# Altium schematic symbol library CompleteLibrary.SchLib: 558 symbols (part 4 of 4)
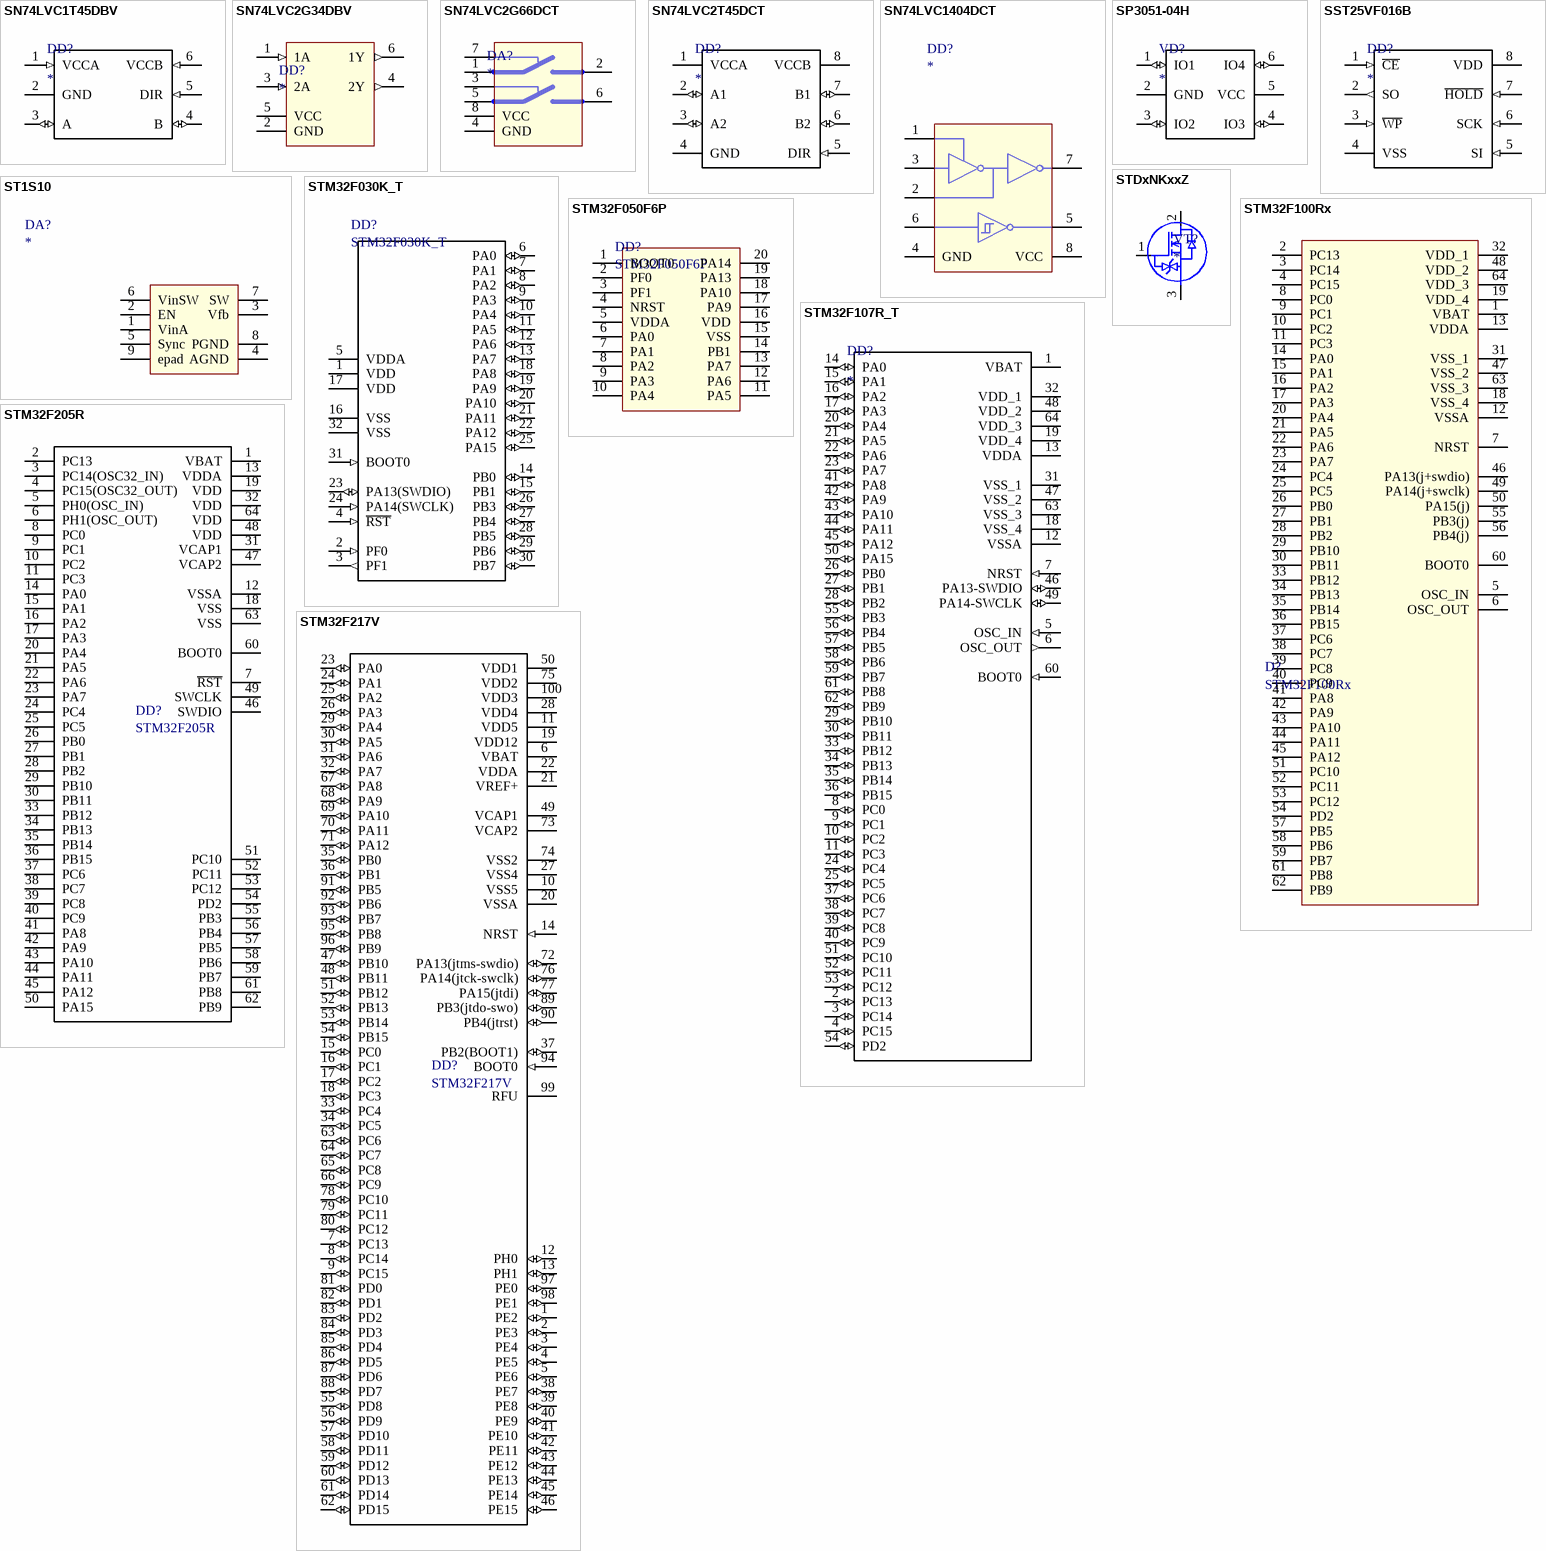
[diagram p28: symbols SN74LVC1T45DBV to STM32F217V]

## STM32F100Rx
designator D?
IC UC/UP; Описание: ???; NumberSolderPointsSMD: 0; Аналог: нет; NumberSolderPointsTHT: 0
footprint LQFP64_FT2232HL
pins: 1 VBAT, 2 PC13, 3 PC14, 4 PC15, 5 OSC_IN, 6 OSC_OUT, 7 NRST, 8 PC0, 9 PC1, 10 PC2, 11 PC3, 12 VSSA, 13 VDDA, 14 PA0, 15 PA1, 16 PA2, 17 PA3, 18 VSS_4, 19 VDD_4, 20 PA4, 21 PA5, 22 PA6, 23 PA7, 24 PC4, 25 PC5, 26 PB0, 27 PB1, 28 PB2, 29 PB10, 30 PB11, 31 VSS_1, 32 VDD_1, 33 PB12, 34 PB13, 35 PB14, 36 PB15, 37 PC6, 38 PC7, 39 PC8, 40 PC9, 41 PA8, 42 PA9, 43 PA10, 44 PA11, 45 PA12, 46 PA13(j+swdio), 47 VSS_2, 48 VDD_2, 49 PA14(j+swclk), 50 PA15(j), 51 PC10, 52 PC11, 53 PC12, 54 PD2, 55 PB3(j), 56 PB4(j), 57 PB5, 58 PB6, 59 PB7, 60 BOOT0, 61 PB8, 62 PB9, 63 VSS_3, 64 VDD_3

## STM32F107R_T
designator DD?
IC uC/uP; Описание: Микросхема LQFP64; x: STM32F107RCT6 (256kByte flash)
footprint LQFP64_STM32
pins: 1 VBAT (power), 2 PC13 (io), 3 PC14 (io), 4 PC15 (io), 5 OSC_IN (in), 6 OSC_OUT (out), 7 NRST (in), 8 PC0 (io), 9 PC1 (io), 10 PC2 (io), 11 PC3 (io), 12 VSSA (power), 13 VDDA (power), 14 PA0 (io), 15 PA1 (io), 16 PA2 (io), 17 PA3 (io), 18 VSS_4 (power), 19 VDD_4 (power), 20 PA4 (io), 21 PA5 (io), 22 PA6 (io), 23 PA7 (io), 24 PC4 (io), 25 PC5 (io), 26 PB0 (io), 27 PB1 (io), 28 PB2 (io), 29 PB10 (io), 30 PB11 (io), 31 VSS_1 (power), 32 VDD_1 (power), 33 PB12 (io), 34 PB13 (io), 35 PB14 (io), 36 PB15 (io), 37 PC6 (io), 38 PC7 (io), 39 PC8 (io), 40 PC9 (io), 41 PA8 (io), 42 PA9 (io), 43 PA10 (io), 44 PA11 (io), 45 PA12 (io), 46 PA13-SWDIO (io), 47 VSS_2 (power), 48 VDD_2 (power), 49 PA14-SWCLK (io), 50 PA15 (io), 51 PC10 (io), 52 PC11 (io), 53 PC12 (io), 54 PD2 (io), 55 PB3 (io), 56 PB4 (io), 57 PB5 (io), 58 PB6 (io), 59 PB7 (io), 60 BOOT0 (in), 61 PB8 (io), 62 PB9 (io), 63 VSS_3 (power), 64 VDD_3 (power)

## STM32F205R
designator DD?
IC UC/UP; Описание: Микросхема LQFP64; NumberSolderPointsSMD: 0; Аналог: нет; NumberSolderPointsTHT: 0
footprint LQFP64_STM32
pins: 1 VBAT, 2 PC13, 3 PC14(OSC32_IN), 4 PC15(OSC32_OUT), 5 PH0(OSC_IN), 6 PH1(OSC_OUT), 7 ~{RST}, 8 PC0, 9 PC1, 10 PC2, 11 PC3, 12 VSSA, 13 VDDA, 14 PA0, 15 PA1, 16 PA2, 17 PA3, 18 VSS, 19 VDD, 20 PA4, 21 PA5, 22 PA6, 23 PA7, 24 PC4, 25 PC5, 26 PB0, 27 PB1, 28 PB2, 29 PB10, 30 PB11, 31 VCAP1, 32 VDD, 33 PB12, 34 PB13, 35 PB14, 36 PB15, 37 PC6, 38 PC7, 39 PC8, 40 PC9, 41 PA8, 42 PA9, 43 PA10, 44 PA11, 45 PA12, 46 SWDIO, 47 VCAP2, 48 VDD, 49 SWCLK, 50 PA15, 51 PC10, 52 PC11, 53 PC12, 54 PD2, 55 PB3, 56 PB4, 57 PB5, 58 PB6, 59 PB7, 60 BOOT0, 61 PB8, 62 PB9, 63 VSS, 64 VDD

## STM32F217V
designator DD?
IC UC/UP; Описание: Микросхема LQFP100; NumberSolderPointsSMD: 0; Аналог: нет; NumberSolderPointsTHT: 0
footprint LQFP100_STM32F217V
pins: 1 PE2 (io), 2 PE3 (io), 3 PE4 (io), 4 PE5 (io), 5 PE6 (io), 6 VBAT (power), 7 PC13 (io), 8 PC14 (io), 9 PC15 (io), 10 VSS5 (power), 11 VDD5 (power), 12 PH0 (io), 13 PH1 (io), 14 NRST (in), 15 PC0 (io), 16 PC1 (io), 17 PC2 (io), 18 PC3 (io), 19 VDD12 (power), 20 VSSA (power), 21 VREF+ (power), 22 VDDA (power), 23 PA0 (io), 24 PA1 (io), 25 PA2 (io), 26 PA3 (io), 27 VSS4 (power), 28 VDD4 (power), 29 PA4 (io), 30 PA5 (io), 31 PA6 (io), 32 PA7 (io), 33 PC4 (io), 34 PC5 (io), 35 PB0 (io), 36 PB1 (io), 37 PB2(BOOT1) (io), 38 PE7 (io), 39 PE8 (io), 40 PE9 (io), 41 PE10 (io), 42 PE11 (io), 43 PE12 (io), 44 PE13 (io), 45 PE14 (io), 46 PE15 (io), 47 PB10 (io), 48 PB11 (io), 49 VCAP1 (power), 50 VDD1 (power), 51 PB12 (io), 52 PB13 (io), 53 PB14 (io), 54 PB15 (io), 55 PD8 (io), 56 PD9 (io), 57 PD10 (io), 58 PD11 (io), 59 PD12 (io), 60 PD13 (io), 61 PD14 (io), 62 PD15 (io), 63 PC6 (io), 64 PC7 (io), 65 PC8 (io), 66 PC9 (io), 67 PA8 (io), 68 PA9 (io), 69 PA10 (io), 70 PA11 (io), 71 PA12 (io), 72 PA13(jtms-swdio) (io), 73 VCAP2 (power), 74 VSS2 (power), 75 VDD2 (power), 76 PA14(jtck-swclk) (io), 77 PA15(jtdi) (io), 78 PC10 (io), 79 PC11 (io), 80 PC12 (io), 81 PD0 (io), 82 PD1 (io), 83 PD2 (io), 84 PD3 (io), 85 PD4 (io), 86 PD5 (io), 87 PD6 (io), 88 PD7 (io), 89 PB3(jtdo-swo) (io), 90 PB4(jtrst) (io), 91 PB5 (io), 92 PB6 (io), 93 PB7 (io), 94 BOOT0 (in), 95 PB8 (io), 96 PB9 (io), 97 PE0 (io), 98 PE1 (io), 99 RFU, 100 VDD3 (power)

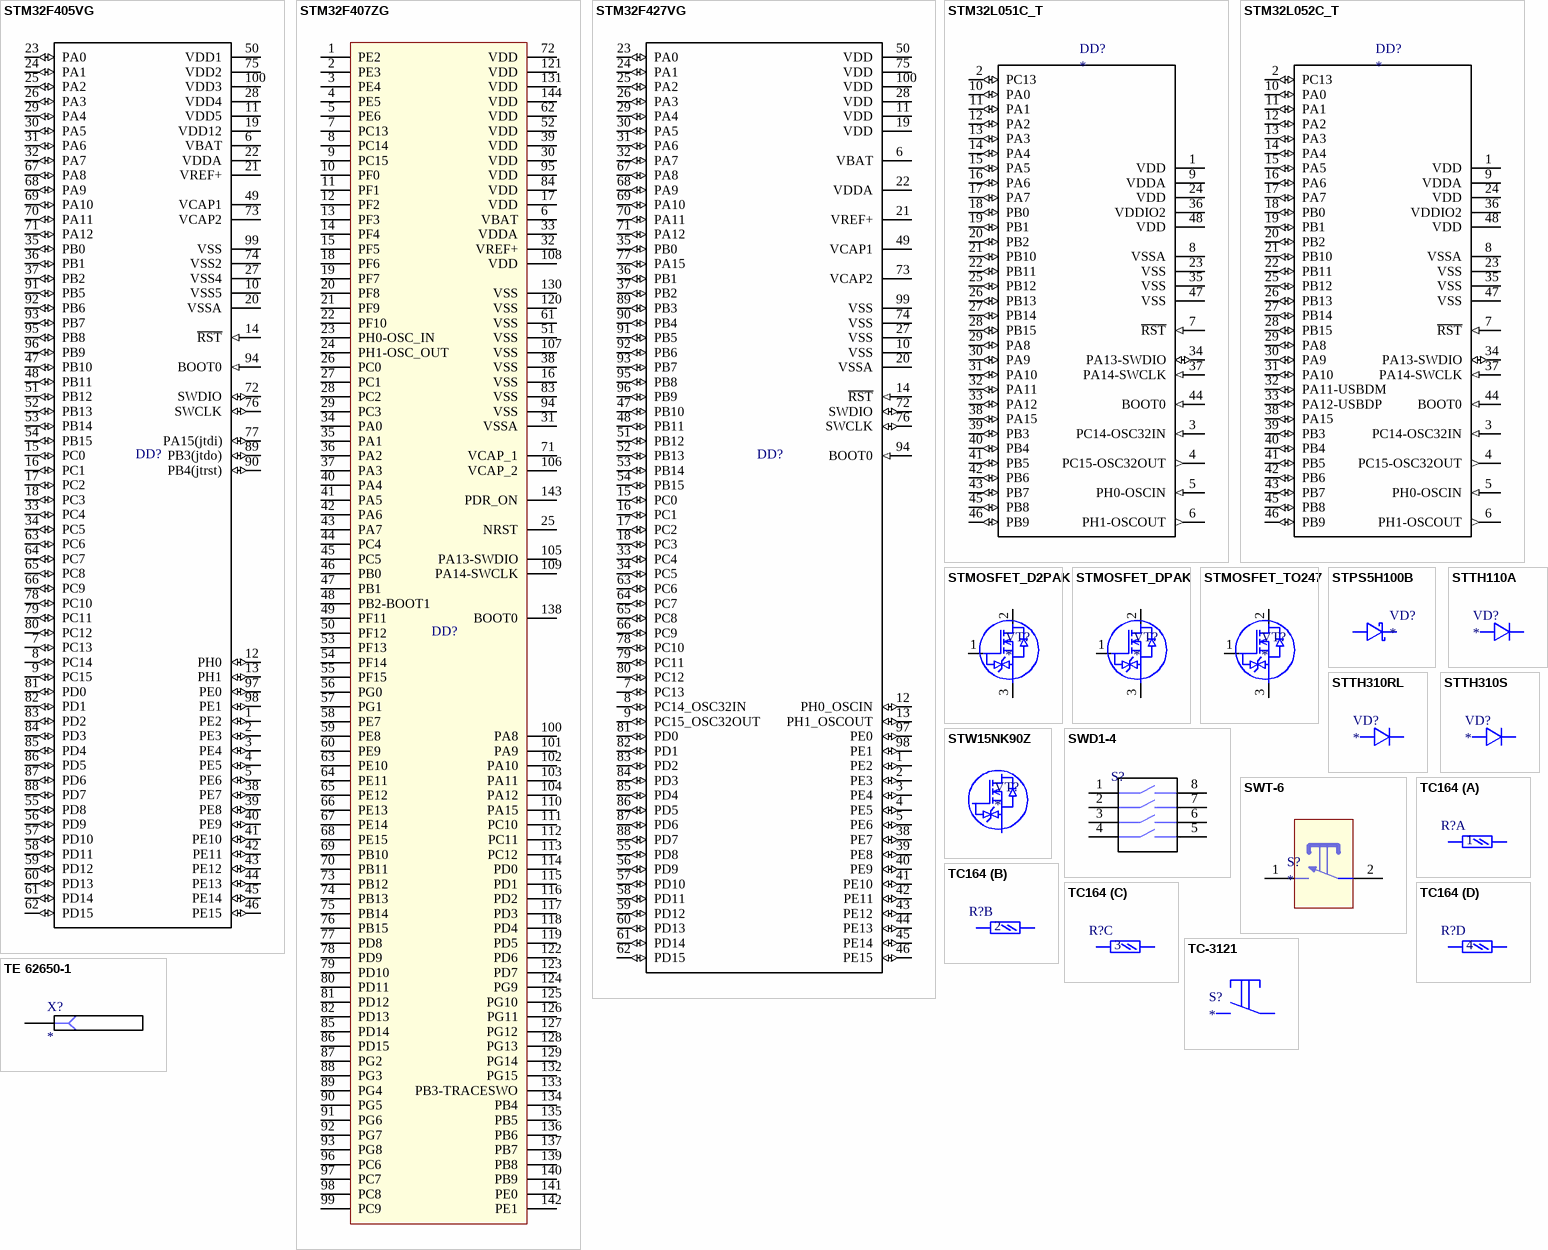
[diagram p21: symbols STM32F405VG to TE 62650-1]

## STM32F405VG
designator DD?  (value not drawn)
IC UC/UP; Описание: Микросхема LQFP100; NumberSolderPointsSMD: 0; Аналог: нет; NumberSolderPointsTHT: 0
footprint LQFP100_STM32F217V
pins: 1 PE2 (io), 2 PE3 (io), 3 PE4 (io), 4 PE5 (io), 5 PE6 (io), 6 VBAT (power), 7 PC13 (io), 8 PC14 (io), 9 PC15 (io), 10 VSS5 (power), 11 VDD5 (power), 12 PH0 (io), 13 PH1 (io), 14 ~{RST} (in), 15 PC0 (io), 16 PC1 (io), 17 PC2 (io), 18 PC3 (io), 19 VDD12 (power), 20 VSSA (power), 21 VREF+ (power), 22 VDDA (power), 23 PA0 (io), 24 PA1 (io), 25 PA2 (io), 26 PA3 (io), 27 VSS4 (power), 28 VDD4 (power), 29 PA4 (io), 30 PA5 (io), 31 PA6 (io), 32 PA7 (io), 33 PC4 (io), 34 PC5 (io), 35 PB0 (io), 36 PB1 (io), 37 PB2 (io), 38 PE7 (io), 39 PE8 (io), 40 PE9 (io), 41 PE10 (io), 42 PE11 (io), 43 PE12 (io), 44 PE13 (io), 45 PE14 (io), 46 PE15 (io), 47 PB10 (io), 48 PB11 (io), 49 VCAP1 (power), 50 VDD1 (power), 51 PB12 (io), 52 PB13 (io), 53 PB14 (io), 54 PB15 (io), 55 PD8 (io), 56 PD9 (io), 57 PD10 (io), 58 PD11 (io), 59 PD12 (io), 60 PD13 (io), 61 PD14 (io), 62 PD15 (io), 63 PC6 (io), 64 PC7 (io), 65 PC8 (io), 66 PC9 (io), 67 PA8 (io), 68 PA9 (io), 69 PA10 (io), 70 PA11 (io), 71 PA12 (io), 72 SWDIO (io), 73 VCAP2 (power), 74 VSS2 (power), 75 VDD2 (power), 76 SWCLK (io), 77 PA15(jtdi) (io), 78 PC10 (io), 79 PC11 (io), 80 PC12 (io), 81 PD0 (io), 82 PD1 (io), 83 PD2 (io), 84 PD3 (io), 85 PD4 (io), 86 PD5 (io), 87 PD6 (io), 88 PD7 (io), 89 PB3(jtdo) (io), 90 PB4(jtrst) (io), 91 PB5 (io), 92 PB6 (io), 93 PB7 (io), 94 BOOT0 (in), 95 PB8 (io), 96 PB9 (io), 97 PE0 (io), 98 PE1 (io), 99 VSS, 100 VDD3 (power)

## STM32F407ZG
designator DD?  (value not drawn)
IC UC/UP; Описание: Микросхема LQFP144; NumberSolderPointsSMD: 0; Аналог: нет; NumberSolderPointsTHT: 0
footprint LQFP144_STM32
pins: 1 PE2, 2 PE3, 3 PE4, 4 PE5, 5 PE6, 6 VBAT, 7 PC13, 8 PC14, 9 PC15, 10 PF0, 11 PF1, 12 PF2, 13 PF3, 14 PF4, 15 PF5, 16 VSS, 17 VDD, 18 PF6, 19 PF7, 20 PF8, 21 PF9, 22 PF10, 23 PH0-OSC_IN, 24 PH1-OSC_OUT, 25 NRST, 26 PC0, 27 PC1, 28 PC2, 29 PC3, 30 VDD, 31 VSSA, 32 VREF+, 33 VDDA, 34 PA0, 35 PA1, 36 PA2, 37 PA3, 38 VSS, 39 VDD, 40 PA4, 41 PA5, 42 PA6, 43 PA7, 44 PC4, 45 PC5, 46 PB0, 47 PB1, 48 PB2-BOOT1, 49 PF11, 50 PF12, 51 VSS, 52 VDD, 53 PF13, 54 PF14, 55 PF15, 56 PG0, 57 PG1, 58 PE7, 59 PE8, 60 PE9, 61 VSS, 62 VDD, 63 PE10, 64 PE11, 65 PE12, 66 PE13, 67 PE14, 68 PE15, 69 PB10, 70 PB11, 71 VCAP_1, 72 VDD, 73 PB12, 74 PB13, 75 PB14, 76 PB15, 77 PD8, 78 PD9, 79 PD10, 80 PD11, 81 PD12, 82 PD13, 83 VSS, 84 VDD, 85 PD14, 86 PD15, 87 PG2, 88 PG3, 89 PG4, 90 PG5, 91 PG6, 92 PG7, 93 PG8, 94 VSS, 95 VDD, 96 PC6, 97 PC7, 98 PC8, 99 PC9, 100 PA8, 101 PA9, 102 PA10, 103 PA11, 104 PA12, 105 PA13-SWDIO, 106 VCAP_2, 107 VSS, 108 VDD, 109 PA14-SWCLK, 110 PA15, 111 PC10, 112 PC11, 113 PC12, 114 PD0, 115 PD1, 116 PD2, 117 PD3, 118 PD4, 119 PD5, 120 VSS, 121 VDD, 122 PD6, 123 PD7, 124 PG9, 125 PG10, 126 PG11, 127 PG12, 128 PG13, 129 PG14, 130 VSS, 131 VDD, 132 PG15, 133 PB3-TRACESWO, 134 PB4, 135 PB5, 136 PB6, 137 PB7, 138 BOOT0, 139 PB8, 140 PB9, 141 PE0, 142 PE1, 143 PDR_ON, 144 VDD

## STM32F427VG
designator DD?  (value not drawn)
IC UC/UP; Описание: Микросхема LQFP100; NumberSolderPointsSMD: 0; Аналог: нет; NumberSolderPointsTHT: 0
footprint LQFP100_STM32F217V
pins: 1 PE2 (io), 2 PE3 (io), 3 PE4 (io), 4 PE5 (io), 5 PE6 (io), 6 VBAT (power), 7 PC13 (io), 8 PC14_OSC32IN (io), 9 PC15_OSC32OUT (io), 10 VSS (power), 11 VDD (power), 12 PH0_OSCIN (io), 13 PH1_OSCOUT (io), 14 ~{RST} (in), 15 PC0 (io), 16 PC1 (io), 17 PC2 (io), 18 PC3 (io), 19 VDD (power), 20 VSSA (power), 21 VREF+ (power), 22 VDDA (power), 23 PA0 (io), 24 PA1 (io), 25 PA2 (io), 26 PA3 (io), 27 VSS (power), 28 VDD (power), 29 PA4 (io), 30 PA5 (io), 31 PA6 (io), 32 PA7 (io), 33 PC4 (io), 34 PC5 (io), 35 PB0 (io), 36 PB1 (io), 37 PB2 (io), 38 PE7 (io), 39 PE8 (io), 40 PE9 (io), 41 PE10 (io), 42 PE11 (io), 43 PE12 (io), 44 PE13 (io), 45 PE14 (io), 46 PE15 (io), 47 PB10 (io), 48 PB11 (io), 49 VCAP1 (power), 50 VDD (power), 51 PB12 (io), 52 PB13 (io), 53 PB14 (io), 54 PB15 (io), 55 PD8 (io), 56 PD9 (io), 57 PD10 (io), 58 PD11 (io), 59 PD12 (io), 60 PD13 (io), 61 PD14 (io), 62 PD15 (io), 63 PC6 (io), 64 PC7 (io), 65 PC8 (io), 66 PC9 (io), 67 PA8 (io), 68 PA9 (io), 69 PA10 (io), 70 PA11 (io), 71 PA12 (io), 72 SWDIO (io), 73 VCAP2 (power), 74 VSS (power), 75 VDD (power), 76 SWCLK (io), 77 PA15 (io), 78 PC10 (io), 79 PC11 (io), 80 PC12 (io), 81 PD0 (io), 82 PD1 (io), 83 PD2 (io), 84 PD3 (io), 85 PD4 (io), 86 PD5 (io), 87 PD6 (io), 88 PD7 (io), 89 PB3 (io), 90 PB4 (io), 91 PB5 (io), 92 PB6 (io), 93 PB7 (io), 94 BOOT0 (in), 95 PB8 (io), 96 PB9 (io), 97 PE0 (io), 98 PE1 (io), 99 VSS, 100 VDD (power)

## STM32L051C_T
designator DD?
IC UC/UP; Аналог: нет; Описание: ???
footprint LQFP48_STM32
pins: 1 VDD (power), 2 PC13 (io), 3 PC14-OSC32IN (in), 4 PC15-OSC32OUT (out), 5 PH0-OSCIN (in), 6 PH1-OSCOUT (out), 7 ~{RST} (in), 8 VSSA (power), 9 VDDA (power), 10 PA0 (io), 11 PA1 (io), 12 PA2 (io), 13 PA3 (io), 14 PA4 (io), 15 PA5 (io), 16 PA6 (io), 17 PA7 (io), 18 PB0 (io), 19 PB1 (io), 20 PB2 (io), 21 PB10 (io), 22 PB11 (io), 23 VSS (power), 24 VDD (power), 25 PB12 (io), 26 PB13 (io), 27 PB14 (io), 28 PB15 (io), 29 PA8 (io), 30 PA9 (io), 31 PA10 (io), 32 PA11 (io), 33 PA12 (io), 34 PA13-SWDIO (io), 35 VSS (power), 36 VDDIO2 (power), 37 PA14-SWCLK (in), 38 PA15 (io), 39 PB3 (io), 40 PB4 (io), 41 PB5 (io), 42 PB6 (io), 43 PB7 (io), 44 BOOT0 (in), 45 PB8 (io), 46 PB9 (io), 47 VSS (power), 48 VDD (power)

## STM32L052C_T
designator DD?
IC UC/UP; Аналог: нет; x: STM32L052C6T(32kByte flash),STM32L052C8T(64kByte flash); Описание: Микросхема LQFP48
footprint LQFP48_STM32
pins: 1 VDD (power), 2 PC13 (io), 3 PC14-OSC32IN (in), 4 PC15-OSC32OUT (out), 5 PH0-OSCIN (in), 6 PH1-OSCOUT (out), 7 ~{RST} (in), 8 VSSA (power), 9 VDDA (power), 10 PA0 (io), 11 PA1 (io), 12 PA2 (io), 13 PA3 (io), 14 PA4 (io), 15 PA5 (io), 16 PA6 (io), 17 PA7 (io), 18 PB0 (io), 19 PB1 (io), 20 PB2 (io), 21 PB10 (io), 22 PB11 (io), 23 VSS (power), 24 VDD (power), 25 PB12 (io), 26 PB13 (io), 27 PB14 (io), 28 PB15 (io), 29 PA8 (io), 30 PA9 (io), 31 PA10 (io), 32 PA11-USBDM (io), 33 PA12-USBDP (io), 34 PA13-SWDIO (io), 35 VSS (power), 36 VDDIO2 (power), 37 PA14-SWCLK (in), 38 PA15 (io), 39 PB3 (io), 40 PB4 (io), 41 PB5 (io), 42 PB6 (io), 43 PB7 (io), 44 BOOT0 (in), 45 PB8 (io), 46 PB9 (io), 47 VSS (power), 48 VDD (power)

## STMOSFET_D2PAK
designator VT?
TRANSISTOR N-Channel zener-protected power MOSFET in D2PAK; Описание: ???; NumberSolderPointsSMD: 0; Аналог: нет; NumberSolderPointsTHT: 0
footprint STMOSFET_D2PAK
pins: 1 G, 2 D, 3 S

## STMOSFET_DPAK
designator VT?
TRANSISTOR N-Channel zener-protected power MOSFET in DPAK; Описание: Транзистор DPAK; NumberSolderPointsSMD: 0; Аналог: нет; NumberSolderPointsTHT: 0
footprint STMOSFET_DPAK
pins: 1 G, 2 D, 3 S

## STMOSFET_TO247
designator VT?
TRANSISTOR N-Channel zener-protected power MOSFET in DPAK; Описание: ???; NumberSolderPointsSMD: 0; Аналог: нет; NumberSolderPointsTHT: 0
footprint STMOSFET_TO247
pins: 1 G, 2 D, 3 S

## STPS5H100B
designator VD?
DIODE Schottky 100V 5A; Описание: ???; NumberSolderPointsSMD: 0; Аналог: нет; NumberSolderPointsTHT: 0
footprint DPAK
pins: 2, 3

## STTH110A
designator VD?
DIODE High voltage ultrafast rectifier; Описание: Диод SMA; NumberSolderPointsSMD: 0; Аналог: нет; NumberSolderPointsTHT: 0
footprint SMA_DIODE
pins: 1, 2

## STTH310RL
designator VD?
DIODE High voltage ultrafast rectifier; Описание: ???; NumberSolderPointsSMD: 0; Аналог: нет; NumberSolderPointsTHT: 0
footprint DO201_STTH310RL
pins: 1, 2

## STTH310S
designator VD?
DIODE High voltage ultrafast rectifier; Описание: Диод SMC; NumberSolderPointsSMD: 0; Аналог: нет; NumberSolderPointsTHT: 0
footprint SMC
pins: 1, 2

## STW15NK90Z
designator VT?
TRANSISTOR MOSFET; Описание: Транзистор TO247; NumberSolderPointsSMD: 0; Аналог: нет; NumberSolderPointsTHT: 0
footprint TO247_MOSFETST
footprint TO247_MOSFETST_LOW1
pins: 1 G, 2 D, 3 S

## SWD1-4
designator S?  (value not drawn)
SWITCH DIP-switch; Описание: Переключатель DIP8; NumberSolderPointsSMD: 0; Аналог: нет; NumberSolderPointsTHT: 0
footprint SWD1-4
pins: 1, 2, 3, 4, 5, 6, 7, 8

## SWT-6
designator S?
SWITCH Button; Описание: ???; NumberSolderPointsSMD: 0; Аналог: нет; NumberSolderPointsTHT: 0
footprint SWT-6
pins: 1, 2

## TC164
designator R?
RESISTOR Array , 0.8mm pitch; Описание: Резист.сборка x4 SMD1206; NumberSolderPointsSMD: 0; Аналог: CAT16(YC164/CAY16); NumberSolderPointsTHT: 0
footprint TC164
part A pins: 1, 8
part B pins: 2, 7
part C pins: 3, 6
part D pins: 4, 5

## TC-3121
designator S?
SWITCH Button; Описание: Кнопка; NumberSolderPointsSMD: 0; Аналог: нет; NumberSolderPointsTHT: 0
footprint TC-3121(right-angle var1)
pins: 1, 2

## TE 62650-1
designator X?
CONNECTOR 6.3mm tab; Аналог: нет; Описание: ???
footprint 62650-1
pins: 1

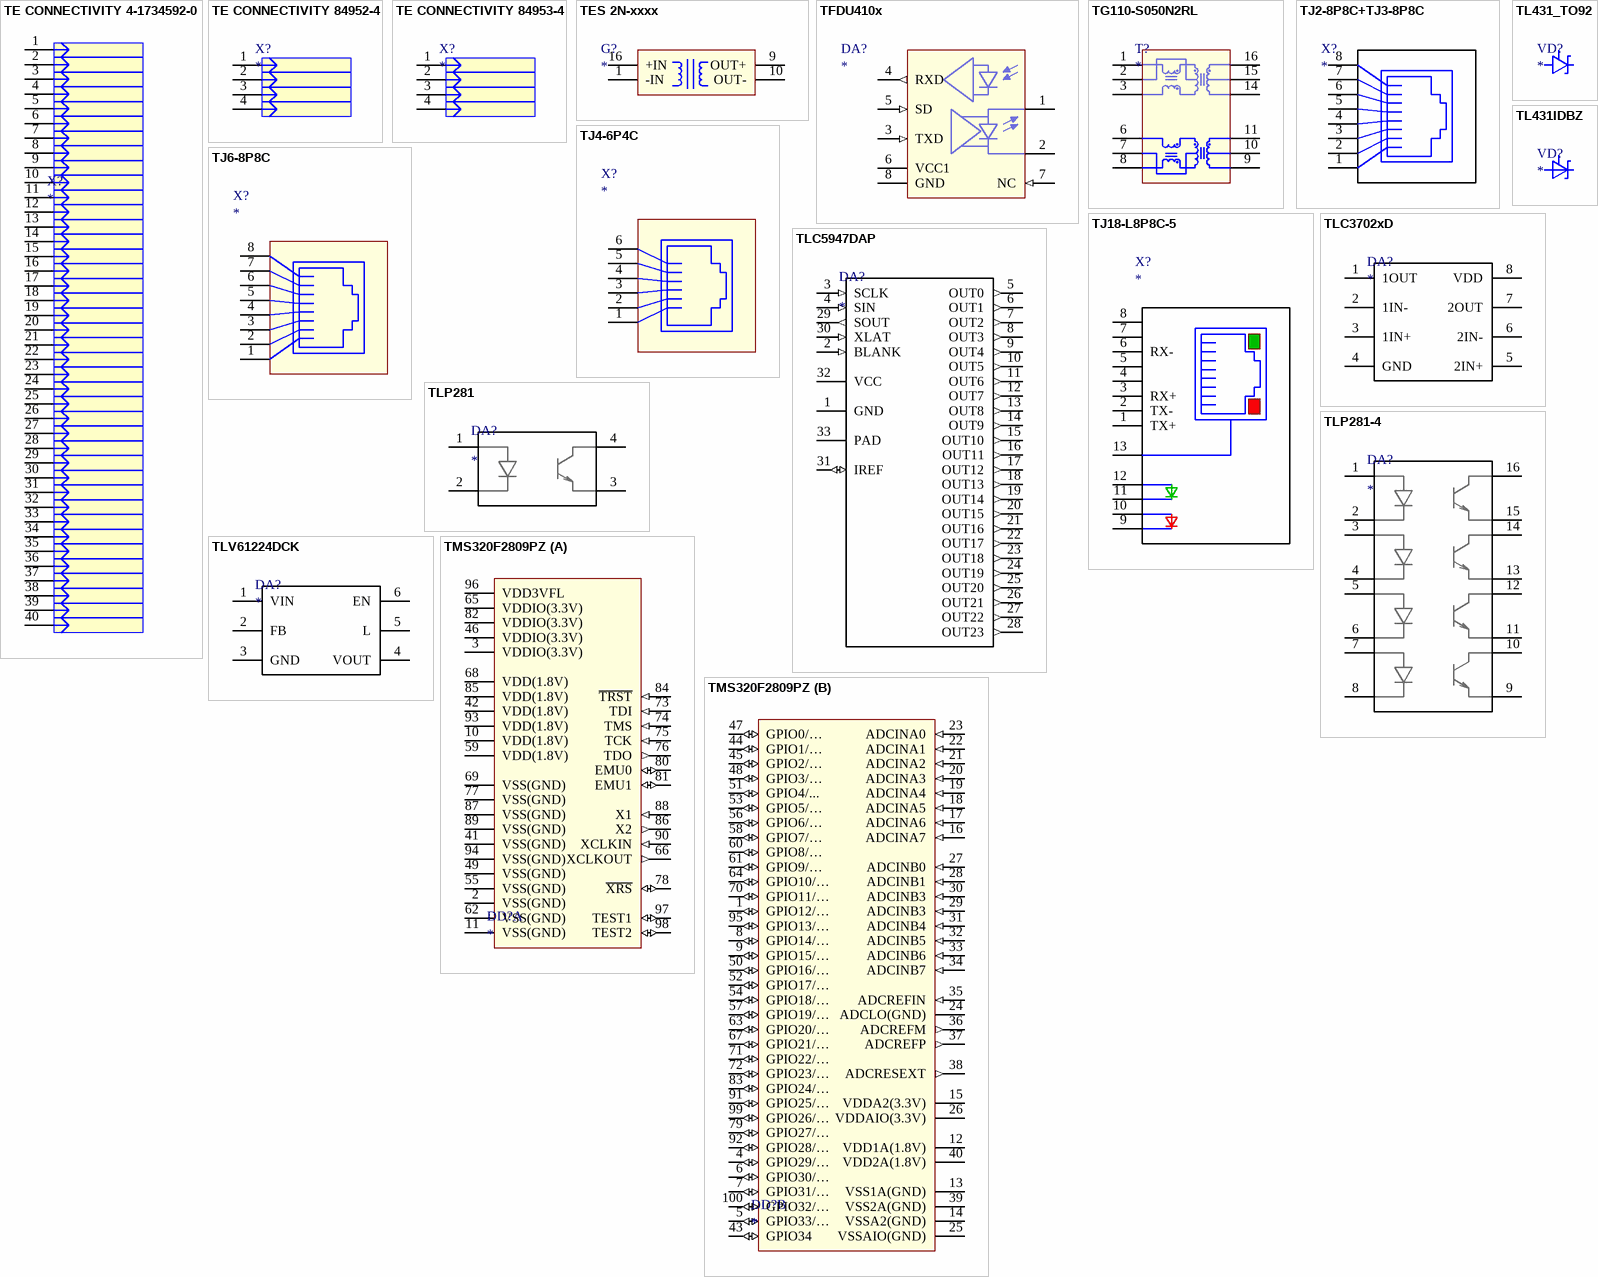
[diagram p22: symbols TE CONNECTIVITY 4-1734592-0 to TMS320F2809PZ]

## TE CONNECTIVITY 4-1734592-0
designator X?
CONNECTOR FPC pitch=0.5mm p=40 right-angle bottom-contact; Описание: Разъем; NumberSolderPointsSMD: 0; Аналог: нет; NumberSolderPointsTHT: 0
footprint 4-1734592-0
pins: 1, 2, 3, 4, 5, 6, 7, 8, 9, 10, 11, 12, 13, 14, 15, 16, 17, 18, 19, 20, 21, 22, 23, 24, 25, 26, 27, 28, 29, 30, 31, 32, 33, 34, 35, 36, 37, 38, 39, 40

## TE CONNECTIVITY 84952-4
designator X?
CONNECTOR FPC pitch=1mm p=4 right-angle bottom-contact; Описание: Разъем; NumberSolderPointsSMD: 0; Аналог: нет; NumberSolderPointsTHT: 0
footprint 84952-4
pins: 1, 2, 3, 4

## TE CONNECTIVITY 84953-4
designator X?
CONNECTOR FPC pitch=1mm p=4 right-angle top-contact; Описание: Разъем; NumberSolderPointsSMD: 0; Аналог: нет; NumberSolderPointsTHT: 0
footprint 84952-4
pins: 1, 2, 3, 4

## TES 2N-xxxx
designator G?
MODULE POWER 2W regulated DC/DC converter , 1.5KV isolation; Описание: ???; NumberSolderPointsSMD: 0; Аналог: нет; NumberSolderPointsTHT: 0
footprint TES 2N-xxxx
pins: 1 -IN (power), 9 OUT+ (power), 10 OUT- (power), 16 +IN (power)

## TFDU410x
designator DA?
MODULE INFRARED Transceiver Module (SIR, 115.2 kbit/s); Описание: ???; NumberSolderPointsSMD: 0; Аналог: нет; NumberSolderPointsTHT: 0
footprint TFDU410x
pins: 1, 2, 3 TXD (in), 4 RXD (out), 5 SD (in), 6 VCC1, 7 NC (in), 8 GND

## TG110-S050N2RL
designator T?
MAGNETIC 10/100BASE-TX Magnetic Module; Описание: ???; NumberSolderPointsSMD: 0; Аналог: нет; NumberSolderPointsTHT: 0
footprint SO16W_TG110
pins: 1  , 2  , 3  , 4 NC hidden, 5 NC hidden, 6  , 7  , 8  , 9, 10  , 11  , 12 NC hidden, 13 NC hidden, 14  , 15  , 16  

## TJ2-8P8C+TJ3-8P8C
designator X?
CONNECTOR RJ45; Описание: Разъем RJ45; NumberSolderPointsSMD: 0; Аналог: нет; NumberSolderPointsTHT: 0
footprint TJ2-8P8C+TJ3-8P8C
pins: 1  , 2  , 3  , 4  , 5  , 6  , 7  , 8  

## TJ4-6P4C
designator X?
CONNECTOR RJ1...; Описание: ???; NumberSolderPointsSMD: 0; Аналог: нет; NumberSolderPointsTHT: 0
footprint TJ4-6P4C
pins: 1  , 2  , 3  , 4  , 5  , 6  

## TJ6-8P8C
designator X?
CONNECTOR RJ45; Описание: ???; NumberSolderPointsSMD: 0; Аналог: нет; NumberSolderPointsTHT: 0
footprint TJ6-8P8C
pins: 1  , 2  , 3  , 4  , 5  , 6  , 7  , 8  

## TJ18-L8P8C-5
designator X?
CONNECTOR RJ45; Описание: Разъем RJ45; NumberSolderPointsSMD: 0; Аналог: нет; NumberSolderPointsTHT: 0
footprint TJ18-L8P8C-5
pins: 1 TX+, 2 TX-, 3 RX+, 4, 5, 6 RX-, 7, 8, 9 RedLED+, 10 RedLED-, 11 GreenLED+, 12 GreenLED-, 13 Case1

## TL431_TO92
designator VD?
DIODE ZENER Adjustable shunt regulator; Описание: ???; NumberSolderPointsSMD: 0; Аналог: нет; NumberSolderPointsTHT: 0
footprint TO92_TL431
pins: 1 REF, 2 ANODE, 3 CATHODE

## TL431IDBZ
designator VD?
DIODE ZENER Adjustable shunt regulator (sot23-3); Описание: Стабилитрон SOT23; NumberSolderPointsSMD: 0; Аналог: нет; NumberSolderPointsTHT: 0
footprint SOT23
pins: 1 CATHODE, 2 REF, 3 ANODE

## TLC3702xD
designator DA?
IC dual comparators; Описание: Микросхема SO8; NumberSolderPointsSMD: 0; Аналог: нет; NumberSolderPointsTHT: 0
footprint SO8
pins: 1 1OUT, 2 1IN-, 3 1IN+, 4 GND, 5 2IN+, 6 2IN-, 7 2OUT, 8 VDD

## TLC5947DAP
designator DA?
IC LED driver 24-channel; Описание: Микросхема HTSSOP32; x: *
footprint HTSSOP32_TI
pins: 1 GND (power), 2 BLANK (in), 3 SCLK (in), 4 SIN (in), 5 OUT0 (out), 6 OUT1 (out), 7 OUT2 (out), 8 OUT3 (out), 9 OUT4 (out), 10 OUT5 (out), 11 OUT6 (out), 12 OUT7 (out), 13 OUT8 (out), 14 OUT9 (out), 15 OUT10 (out), 16 OUT11 (out), 17 OUT12 (out), 18 OUT13 (out), 19 OUT14 (out), 20 OUT15 (out), 21 OUT16 (out), 22 OUT17 (out), 23 OUT18 (out), 24 OUT19 (out), 25 OUT20 (out), 26 OUT21 (out), 27 OUT22 (out), 28 OUT23 (out), 29 SOUT (out), 30 XLAT (in), 31 IREF (io), 32 VCC (power), 33 PAD (power)

## TLP281
designator DA?
IC Photocoupler; Описание: Оптрон; Аналог: TLP291
footprint SO4_TLP281
pins: 1, 2, 3, 4

## TLP281-4
designator DA?
IC Photocoupler; Описание: Оптрон; Аналог: TLP291-4
footprint SO16
pins: 1, 2, 3, 4, 5, 6, 7, 8, 9, 10, 11, 12, 13, 14, 15, 16

## TLV61224DCK
designator DA?
IC 1or2-cell boost; Аналог: нет; Описание: Микросхема SC70-6
footprint SC70-6
pins: 1 VIN, 2 FB, 3 GND, 4 VOUT, 5 L, 6 EN

## TMS320F2809PZ
designator DD?
IC UC/UP Digital Signal Controller; Описание: ???; NumberSolderPointsSMD: 0; Аналог: нет; NumberSolderPointsTHT: 0
footprint PQFP100_TMS320F2809
part A pins: 2 VSS(GND) (power), 3 VDDIO(3.3V) (power), 10 VDD(1.8V) (power), 11 VSS(GND) (power), 41 VSS(GND) (power), 42 VDD(1.8V) (power), 46 VDDIO(3.3V) (power), 49 VSS(GND) (power), 55 VSS(GND) (power), 59 VDD(1.8V) (power), 62 VSS(GND) (power), 65 VDDIO(3.3V) (power), 66 XCLKOUT (out), 68 VDD(1.8V) (power), 69 VSS(GND) (power), 73 TDI (in), 74 TMS (in), 75 TCK (in), 76 TDO (out), 77 VSS(GND) (power), 78 ~{XRS} (io), 80 EMU0 (io), 81 EMU1 (io), 82 VDDIO(3.3V) (power), 84 ~{TRST} (in), 85 VDD(1.8V) (power), 86 X2 (out), 87 VSS(GND) (power), 88 X1 (in), 89 VSS(GND) (power), 90 XCLKIN (in), 93 VDD(1.8V) (power), 94 VSS(GND) (power), 96 VDD3VFL (power), 97 TEST1 (io), 98 TEST2 (io)
part B pins: 1 GPIO12/… (io) "GPIO12/TZ1/CANTXB/SPISIMOB", 4 GPIO29/… (io) "GPIO29/SCITXDA/TZ6", 5 GPIO33/… (io) "GPIO33/SCL/EPWMSYNCO/ADCSOCBO", 6 GPIO30/… (io) "GPIO30/CANRXA", 7 GPIO31/… (io) "GPIO31/CANTXA", 8 GPIO14/… (io) "GPIO14/TZ3/SCITXDB/SPICLKB", 9 GPIO15/… (io) "GPIO15/TZ4/SCIRXDB/SPISTEB", 12 VDD1A(1.8V) (power), 13 VSS1A(GND) (power), 14 VSSA2(GND) (power), 15 VDDA2(3.3V) (power), 16 ADCINA7 (in), 17 ADCINA6 (in), 18 ADCINA5 (in), 19 ADCINA4 (in), 20 ADCINA3 (in), 21 ADCINA2 (in), 22 ADCINA1 (in), 23 ADCINA0 (in), 24 ADCLO(GND) (power), 25 VSSAIO(GND) (power), 26 VDDAIO(3.3V) (power), 27 ADCINB0 (in), 28 ADCINB1 (in), 29 ADCINB3 (in), 30 ADCINB3 (in), 31 ADCINB4 (in), 32 ADCINB5 (in), 33 ADCINB6 (in), 34 ADCINB7 (in), 35 ADCREFIN (in), 36 ADCREFM (out), 37 ADCREFP (out), 38 ADCRESEXT (out), 39 VSS2A(GND) (power), 40 VDD2A(1.8V) (power), 43 GPIO34 (io), 44 GPIO1/… (io) "GPIO1/EPWM1B/SPISIMOD", 45 GPIO2/… (io) "GPIO2/EPWM2A", 47 GPIO0/… (io) "GPIO0/EPWM1A", 48 GPIO3/… (io) "GPIO3/EPWM2B/SPISOMID", 50 GPIO16/… (io) "GPIO16/SPISIMOA/CANTXB/TZ5", 51 GPIO4/... (io) "GPIO4/EPWM3A", 52 GPIO17/… (io) "GPIO17/SPISOMIA/CANRXB/TZ6", 53 GPIO5/… (io) "GPIO5/EPWM3B/SPICLKD/ECAP1", 54 GPIO18/… (io) "GPIO18/SPICLKA/SCITXDB", 56 GPIO6/… (io) "GPIO6/EPWM4A/EPWMSYNCI/EPWMSYNCO", 57 GPIO19/… (io) "GPIO19/SPISTEA/SCIRXDB", 58 GPIO7/… (io) "GPIO7/EPWM4B/SPISTED/ECAP2", 60 GPIO8/… (io) "GPIO8/EPWM5A/CANTXB/ADCSOCAO", 61 GPIO9/… (io) "GPIO9/EPWM5B/SCITXDB/ECAP3", 63 GPIO20/… (io) "GPIO20/EQEP1A/SPISIMOC/CANTXB", 64 GPIO10/… (io) "GPIO10/EPWM6A/CANRXB/ADCSOCBO", 67 GPIO21/… (io) "GPIO21/EQEP1B/SPISOMIC/CANRXB", 70 GPIO11/… (io) "GPIO11/EPWM6B/SCIRXDB/ECAP4", 71 GPIO22/… (io) "GPIO22/EQEP1S/SPICLKC/SCITXDB", 72 GPIO23/… (io) "GPIO23/EQEP1I/SPISTEC/SCIRXDB", 79 GPIO27/… (io) "GPIO27/ECAP4/EQEP2S/SPISTEB", 83 GPIO24/… (io) "GPIO24/ECAP1/EQEP2A/SPISIMOB", 91 GPIO25/… (io) "GPIO25/ECAP2/EQEP2B/SPISOMIB", 92 GPIO28/… (io) "GPIO28/SCIRXDA/TZ5", 95 GPIO13/… (io) "GPIO13/TZ2/CANRXB/SPISOMIB", 99 GPIO26/… (io) "GPIO26/ECAP3/EQEP2I/SPICLKB", 100 GPIO32/… (io) "GPIO32/SDAA/EPWMSYNCI/ADCSOCAO"

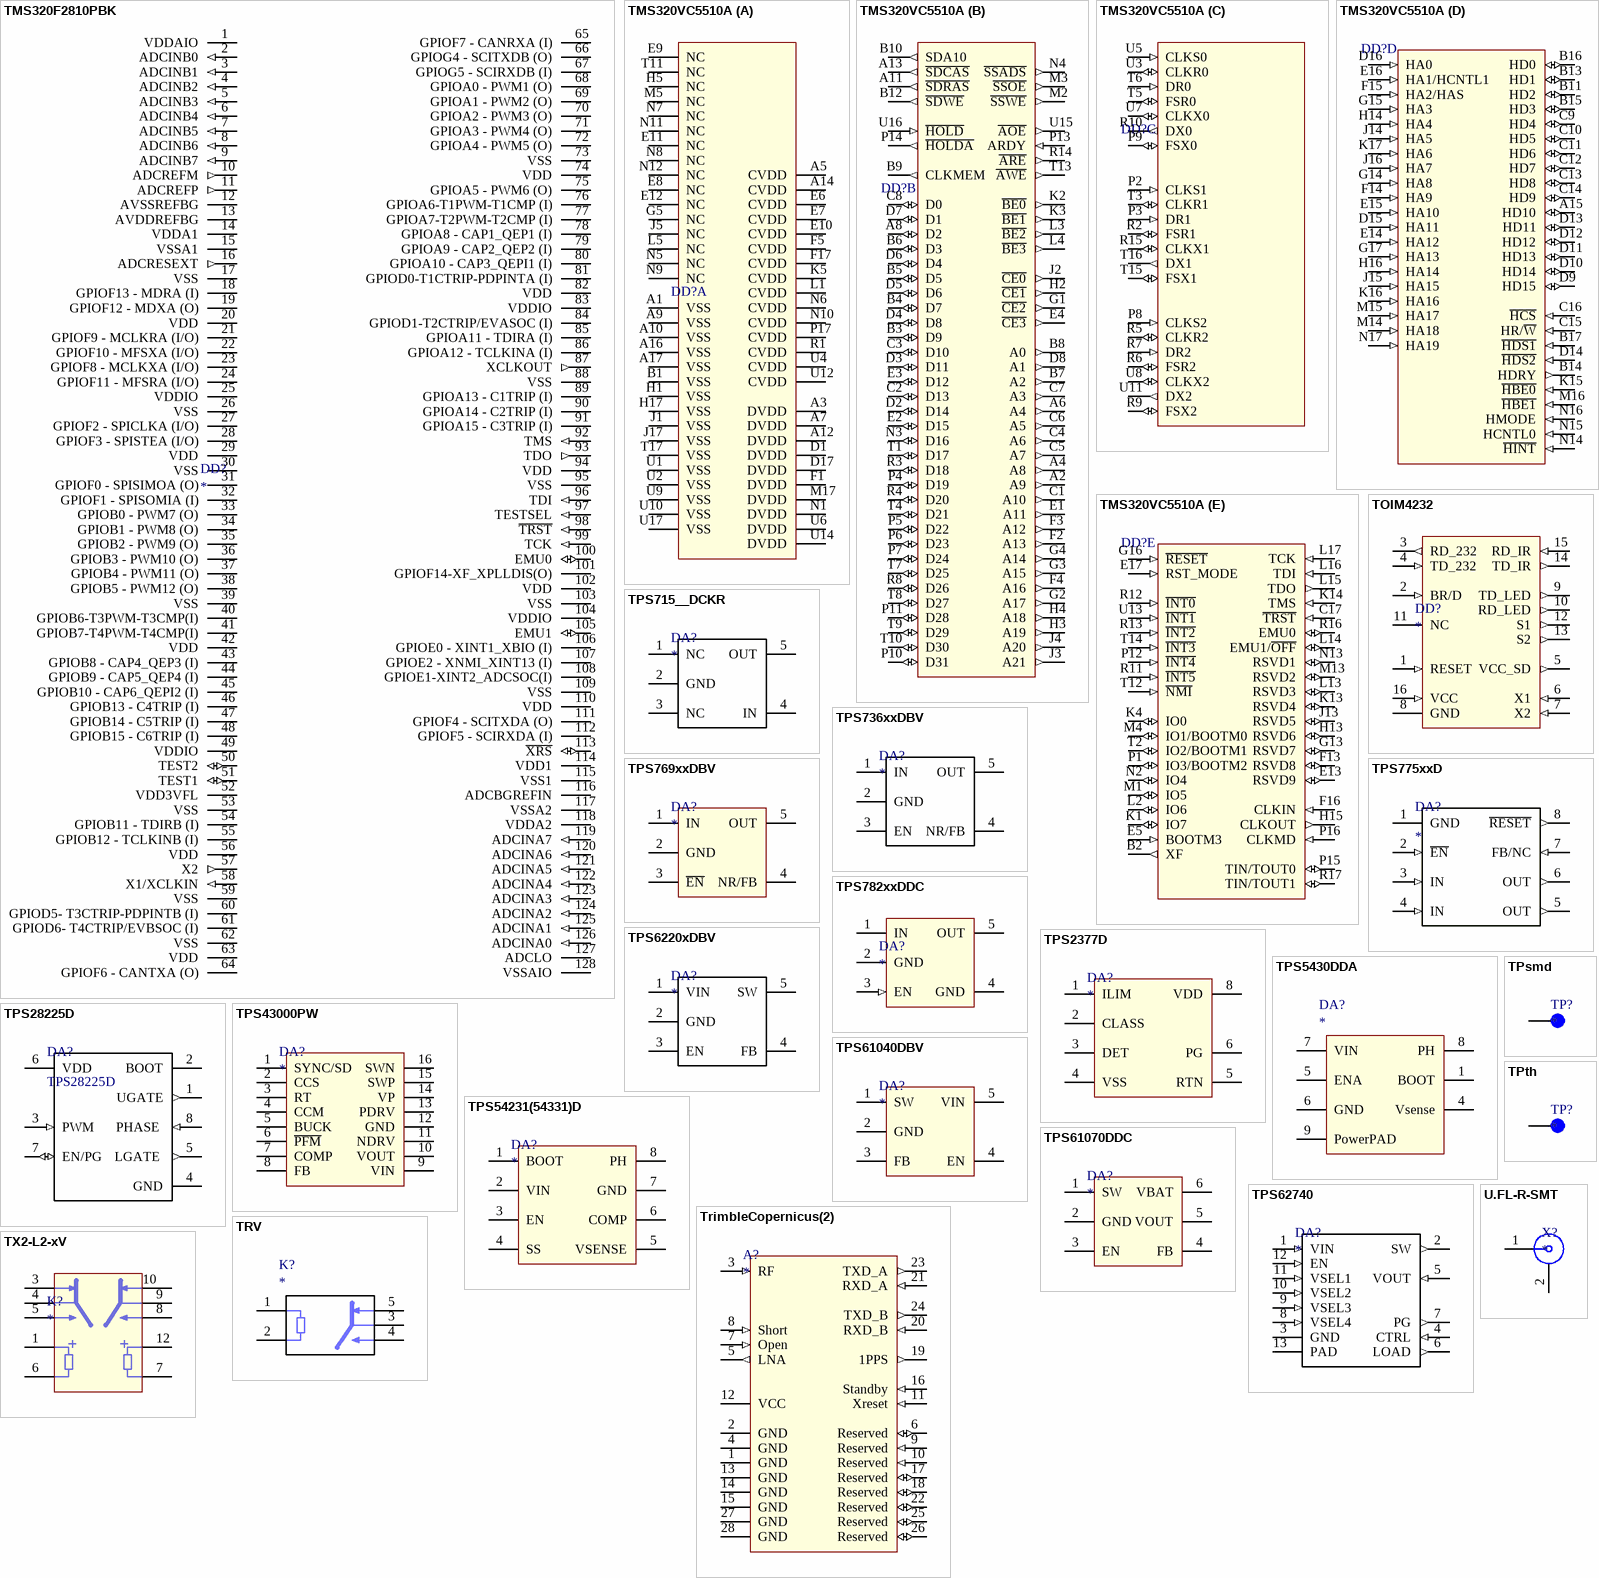
[diagram p23: symbols TMS320F2810PBK to U.FL-R-SMT]

## TMS320F2810PBK
designator DD?
IC UC/UP Digital Signal Controller; Описание: ???; NumberSolderPointsSMD: 0; Аналог: нет; NumberSolderPointsTHT: 0
pins: 1 VDDAIO, 2 ADCINB0 (in), 3 ADCINB1 (in), 4 ADCINB2 (in), 5 ADCINB3 (in), 6 ADCINB4 (in), 7 ADCINB5 (in), 8 ADCINB6 (in), 9 ADCINB7 (in), 10 ADCREFM (out), 11 ADCREFP (out), 12 AVSSREFBG, 13 AVDDREFBG, 14 VDDA1, 15 VSSA1, 16 ADCRESEXT (out), 17 VSS, 18 GPIOF13 - MDRA (I), 19 GPIOF12 - MDXA (O), 20 VDD, 21 GPIOF9 - MCLKRA (I/O), 22 GPIOF10 - MFSXA (I/O), 23 GPIOF8 - MCLKXA (I/O), 24 GPIOF11 - MFSRA (I/O), 25 VDDIO, 26 VSS, 27 GPIOF2 - SPICLKA (I/O), 28 GPIOF3 - SPISTEA (I/O), 29 VDD, 30 VSS, 31 GPIOF0 - SPISIMOA (O), 32 GPIOF1 - SPISOMIA (I), 33 GPIOB0 - PWM7 (O), 34 GPIOB1 - PWM8 (O), 35 GPIOB2 - PWM9 (O), 36 GPIOB3 - PWM10 (O), 37 GPIOB4 - PWM11 (O), 38 GPIOB5 - PWM12 (O), 39 VSS, 40 GPIOB6-T3PWM-T3CMP(I), 41 GPIOB7-T4PWM-T4CMP(I), 42 VDD, 43 GPIOB8 - CAP4_QEP3 (I), 44 GPIOB9 - CAP5_QEP4 (I), 45 GPIOB10 - CAP6_QEPI2 (I), 46 GPIOB13 - C4TRIP (I), 47 GPIOB14 - C5TRIP (I), 48 GPIOB15 - C6TRIP (I), 49 VDDIO, 50 TEST2 (io), 51 TEST1 (io), 52 VDD3VFL, 53 VSS, 54 GPIOB11 - TDIRB (I), 55 GPIOB12 - TCLKINB (I), 56 VDD, 57 X2 (out), 58 X1/XCLKIN (in), 59 VSS, 60 GPIOD5- T3CTRIP-PDPINTB (I), 61 GPIOD6- T4CTRIP/EVBSOC (I), 62 VSS, 63 VDD, 64 GPIOF6 - CANTXA (O), 65 GPIOF7 - CANRXA (I), 66 GPIOG4 - SCITXDB (O), 67 GPIOG5 - SCIRXDB (I), 68 GPIOA0 - PWM1 (O), 69 GPIOA1 - PWM2 (O), 70 GPIOA2 - PWM3 (O), 71 GPIOA3 - PWM4 (O), 72 GPIOA4 - PWM5 (O), 73 VSS, 74 VDD, 75 GPIOA5 - PWM6 (O), 76 GPIOA6-T1PWM-T1CMP (I), 77 GPIOA7-T2PWM-T2CMP (I), 78 GPIOA8 - CAP1_QEP1 (I), 79 GPIOA9 - CAP2_QEP2 (I), 80 GPIOA10 - CAP3_QEPI1 (I), 81 GPIOD0-T1CTRIP-PDPINTA (I), 82 VDD, 83 VDDIO, 84 GPIOD1-T2CTRIP/EVASOC (I), 85 GPIOA11 - TDIRA (I), 86 GPIOA12 - TCLKINA (I), 87 XCLKOUT (out), 88 VSS, 89 GPIOA13 - C1TRIP (I), 90 GPIOA14 - C2TRIP (I), 91 GPIOA15 - C3TRIP (I), 92 TMS (in), 93 TDO (out), 94 VDD, 95 VSS, 96 TDI (in), 97 TESTSEL (in), 98 ~{TRST} (in), 99 TCK (in), 100 EMU0 (io), 101 GPIOF14-XF_XPLLDIS(O), 102 VDD, 103 VSS, 104 VDDIO, 105 EMU1 (io), 106 GPIOE0 - XINT1_XBIO (I), 107 GPIOE2 - XNMI_XINT13 (I), 108 GPIOE1-XINT2_ADCSOC(I), 109 VSS, 110 VDD, 111 GPIOF4 - SCITXDA (O), 112 GPIOF5 - SCIRXDA (I), 113 ~{XRS} (io), 114 VDD1, 115 VSS1, 116 ADCBGREFIN, 117 VSSA2, 118 VDDA2, 119 ADCINA7 (in), 120 ADCINA6 (in), 121 ADCINA5 (in), 122 ADCINA4 (in), 123 ADCINA3 (in), 124 ADCINA2 (in), 125 ADCINA1 (in), 126 ADCINA0 (in), 127 ADCLO, 128 VSSAIO

## TMS320VC5510A
designator DD?  (value not drawn)
IC UC/UP High-Performance, Low-Power, Fixed-Point DSP; Описание: ???; NumberSolderPointsSMD: 0; Аналог: нет; NumberSolderPointsTHT: 0
footprint PBGA240_TMS320VC5510A
part A pins: A1 VSS (power), A3 DVDD (power), A5 CVDD (power), A7 DVDD (power), A9 VSS (power), A10 VSS (power), A12 DVDD (power), A14 CVDD (power), A16 VSS (power), A17 VSS (power), B1 VSS (power), D1 DVDD (power), D17 DVDD (power), E6 CVDD (power), E7 CVDD (power), E8 NC, E9 NC, E10 CVDD (power), E11 NC, E12 NC, F1 DVDD (power), F5 CVDD (power), F17 CVDD (power), G5 NC, H1 VSS (power), H5 NC, H17 VSS (power), J1 VSS (power), J5 NC, J17 VSS (power), K5 CVDD (power), L1 CVDD (power), L5 NC, M5 NC, M17 DVDD (power), N1 DVDD (power), N5 NC, N6 CVDD (power), N7 NC, N8 NC, N9 NC, N10 CVDD (power), N11 NC, N12 NC, P17 CVDD (power), R1 CVDD (power), T11 NC, T17 VSS (power), U1 VSS (power), U2 VSS (power), U4 CVDD (power), U6 DVDD (power), U9 VSS (power), U10 VSS (power), U12 CVDD (power), U14 DVDD (power), U17 VSS (power)
part B pins: A2 A9 (out), A4 A8 (out), A6 A4 (out), A8 D2 (io), A11 ~{SDRAS} (out), A13 ~{SDCAS} (out), B3 D9 (io), B4 D7 (io), B5 D5 (io), B6 D3 (io), B7 A2 (out), B8 A0 (out), B9 CLKMEM (out), B10 SDA10 (out), B12 ~{SDWE} (out), C1 A10 (out), C2 D13 (io), C3 D10 (io), C4 A6 (out), C5 A7 (out), C6 A5 (out), C7 A3 (out), C8 D0 (io), D2 D14 (io), D3 D11 (io), D4 D8 (io), D5 D6 (io), D6 D4 (io), D7 D1 (io), D8 A1 (out), E1 A11 (out), E2 D15 (io), E3 D12 (io), E4 ~{CE3} (out), F2 A13 (out), F3 A12 (out), F4 A16 (out), G1 ~{CE2} (out), G2 A17 (out), G3 A15 (out), G4 A14 (out), H2 ~{CE1} (out), H3 A19 (out), H4 A18 (out), J2 ~{CE0} (out), J3 A21 (out), J4 A20 (out), K2 ~{BE0} (out), K3 ~{BE1} (out), L3 ~{BE2} (out), L4 ~{BE3} (out), M2 ~{SSWE} (out), M3 ~{SSOE} (out), N3 D16 (io), N4 ~{SSADS} (out), P4 D19 (io), P5 D22 (io), P6 D23 (io), P7 D24 (io), P10 D31 (io), P11 D28 (io), P13 ARDY (in), P14 ~{HOLDA} (out), R3 D18 (io), R4 D20 (io), R8 D26 (io), R14 ~{ARE} (out), T1 D17 (io), T4 D21 (io), T7 D25 (io), T8 D27 (io), T9 D29 (io), T10 D30 (io), T13 ~{AWE} (out), U15 ~{AOE} (out), U16 ~{HOLD} (in)
part C pins: P2 CLKS1 (in), P3 DR1 (in), P8 CLKS2 (in), P9 FSX0 (io), R2 FSR1 (io), R5 CLKR2 (io), R6 FSR2 (io), R7 DR2 (in), R9 FSX2 (io), R10 DX0 (out), R15 CLKX1 (io), T3 CLKR1 (io), T5 FSR0 (io), T6 DR0 (in), T15 FSX1 (io), T16 DX1 (out), U3 CLKR0 (io), U5 CLKS0 (in), U7 CLKX0 (io), U8 CLKX2 (io), U11 DX2 (out)
part D pins: A15 HD10 (io), B11 HD2 (io), B13 HD1 (io), B14 HDRY (out), B15 HD3 (io), B16 HD0 (io), B17 ~{HDS1} (in), C9 HD4 (io), C10 HD5 (io), C11 HD6 (io), C12 HD7 (io), C13 HD8 (io), C14 HD9 (io), C15 HR/~{W} (in), C16 ~{HCS} (in), D9 HD15 (io), D10 HD14 (io), D11 HD13 (io), D12 HD12 (io), D13 HD11 (io), D14 ~{HDS2} (in), D15 HA11 (in), D16 HA0 (in), E14 HA12 (in), E15 HA10 (in), E16 HA1/HCNTL1 (in), F14 HA9 (in), F15 HA2/HAS (in), G14 HA8 (in), G15 HA3 (in), G17 HA13 (in), H14 HA4 (in), H16 HA14 (in), J14 HA5 (in), J15 HA15 (in), J16 HA7 (in), K15 ~{HBE0} (in), K16 HA16 (in), K17 HA6 (in), M14 HA18 (in), M15 HA17 (in), M16 ~{HBE1} (in), N14 ~{HINT} (in), N15 HCNTL0 (in), N16 HMODE (in), N17 HA19 (in)
part E pins: B2 XF (out), C17 ~{TRST} (in), E5 BOOTM3 (in), E13 RSVD9 (io), E17 RST_MODE (in), F13 RSVD8 (io), F16 CLKIN (in), G13 RSVD7 (io), G16 ~{RESET} (in), H13 RSVD6 (io), H15 CLKOUT (out), J13 RSVD5 (io), K1 IO7 (io), K4 IO0 (io), K13 RSVD4 (io), K14 TMS (in), L2 IO6 (io), L13 RSVD3 (io), L14 EMU1/~{OFF} (io), L15 TDO (out), L16 TDI (in), L17 TCK (in), M1 IO5 (io), M4 IO1/BOOTM0 (io), M13 RSVD2 (io), N2 IO4 (io), N13 RSVD1 (io), P1 IO3/BOOTM2 (io), P12 ~{INT4} (in), P15 TIN/TOUT0 (io), P16 CLKMD (in), R11 ~{INT5} (in), R12 ~{INT0} (in), R13 ~{INT2} (in), R16 EMU0 (io), R17 TIN/TOUT1 (io), T2 IO2/BOOTM1 (io), T12 ~{NMI} (in), T14 ~{INT3} (in), U13 ~{INT1} (in)

## TOIM4232
designator DD?
IC SIR Endec for IrDA Applications; Описание: ???; NumberSolderPointsSMD: 0; Аналог: нет; NumberSolderPointsTHT: 0
footprint SO16W
pins: 1 RESET (in), 2 BR/D (in), 3 RD_232 (out), 4 TD_232 (in), 5 VCC_SD (out), 6 X1 (in), 7 X2 (in), 8 GND (power), 9 TD_LED (out), 10 RD_LED (out), 11 NC, 12 S1 (out), 13 S2 (out), 14 TD_IR (out), 15 RD_IR (in), 16 VCC (in)

## TPS715__DCKR
designator DA?
IC LDO; Описание: Микросхема SOT323-5; NumberSolderPointsSMD: 5; NumberSolderPointsTHT: 0; Аналог: нет; x: TPS71525DCKR,TPS71533DCKR,...
footprint SOT323-5
pins: 1 NC, 2 GND, 3 NC, 4 IN, 5 OUT

## TPS736xxDBV
designator DA?
IC Cap-Free, NMOS, 400mA LDO with Reverse Current Protection; Описание: Микросхема SOT23-5; NumberSolderPointsSMD: 0; Аналог: нет; NumberSolderPointsTHT: 0
footprint SOT23-5
pins: 1 IN, 2 GND, 3 EN, 4 NR/FB, 5 OUT

## TPS769xxDBV
designator DA?
IC ULTRALOW-POWER 100-mA LOW-DROPOUT LINEAR REGULATORS; Описание: Микросхема SOT23-5; NumberSolderPointsSMD: 0; Аналог: нет; NumberSolderPointsTHT: 0
footprint SOT23-5
pins: 1 IN, 2 GND, 3 ~{EN}, 4 NR/FB, 5 OUT

## TPS775xxD
designator DA?
IC 500mA LDO; Описание: Микросхема SO8; Аналог: TPS776xxD
footprint SO8
pins: 1 GND (power), 2 ~{EN} (in), 3 IN (in), 4 IN (in), 5 OUT (out), 6 OUT (out), 7 FB/NC (in), 8 ~{RESET} (out)

## TPS782xxDDC
designator DA?
IC 500nA IQ, 150mA, Ultra-Low Quiescent Current LDO; Описание: ???; NumberSolderPointsSMD: 0; Аналог: нет; NumberSolderPointsTHT: 0
footprint SOT23-5
pins: 1 IN (power), 2 GND (power), 3 EN (in), 4 GND (power), 5 OUT (power)

## TPS2377D
designator DA?
IC PoE controller; Описание: Микросхема SO8; NumberSolderPointsSMD: 0; Аналог: нет; NumberSolderPointsTHT: 0
footprint SO8
pins: 1 ILIM, 2 CLASS, 3 DET, 4 VSS, 5 RTN, 6 PG, 8 VDD

## TPS5430DDA
designator DA?
IC 3A Wide Input Range Step-Down Converter; Описание: ???; NumberSolderPointsSMD: 0; Аналог: нет; NumberSolderPointsTHT: 0
footprint SO8POWER
pins: 1 BOOT, 4 Vsense, 5 ENA, 6 GND, 7 VIN, 8 PH, 9 PowerPAD

## TPS6220xDBV
designator DA?
IC High Efficiency, SOT23 Step-Down, DC-DC Converter; Описание: Микросхема SOT23-5; NumberSolderPointsSMD: 0; Аналог: нет; NumberSolderPointsTHT: 0
footprint SOT23-5
pins: 1 VIN, 2 GND, 3 EN, 4 FB, 5 SW

## TPS28225D
designator DA?
IC Synchronous MOSFET drivers; Описание: Микросхема SO8; NumberSolderPointsTHT: 0; NumberSolderPointsSMD: 8; x: *; Комплект: *; Аналог: *
footprint SO8
pins: 1 UGATE (out), 2 BOOT (power), 3 PWM (in), 4 GND (power), 5 LGATE  (out), 6 VDD  (power), 7 EN/PG (io), 8 PHASE  (in)

## TPS43000PW
designator DA?
IC Multi-Topology (buck, boost, sepic) High Frequency DC/DC Controller; Описание: ???; NumberSolderPointsSMD: 0; Аналог: нет; NumberSolderPointsTHT: 0
footprint TSSOP16_TPS43000
pins: 1 SYNC/SD, 2 CCS, 3 RT, 4 CCM, 5 BUCK, 6 ~{PFM}, 7 COMP, 8 FB, 9 VIN, 10 VOUT, 11 NDRV, 12 GND, 13 PDRV, 14 VP, 15 SWP, 16 SWN

## TPS54231(54331)D
designator DA?
IC 2A, 28V INPUT, STEP DOWN DC/DC CONVERTER; Описание: ???; NumberSolderPointsSMD: 0; Аналог: нет; NumberSolderPointsTHT: 0
footprint SO8
pins: 1 BOOT, 2 VIN, 3 EN, 4 SS, 5 VSENSE, 6 COMP, 7 GND, 8 PH

## TPS61040DBV
designator DA?
IC boost-converter; Описание: ???; NumberSolderPointsSMD: 0; Аналог: нет; NumberSolderPointsTHT: 0
footprint SOT23-5
pins: 1 SW, 2 GND, 3 FB, 4 EN, 5 VIN

## TPS61070DDC
designator DA?
IC boost-converter; Описание: ???; NumberSolderPointsSMD: 0; Аналог: нет; NumberSolderPointsTHT: 0
footprint SOT23-6
pins: 1 SW, 2 GND, 3 EN, 4 FB, 5 VOUT, 6 VBAT

## TPS62740
designator DA?
IC Step Down Converter For Low Power Applications; Аналог: нет; Описание: ???
footprint WSON12
pins: 1 VIN (in), 2 SW (out), 3 GND (power), 4 CTRL (in), 5 VOUT (in), 6 LOAD (out), 7 PG (out), 8 VSEL4 (in), 9 VSEL3 (in), 10 VSEL2 (in), 11 VSEL1 (in), 12 EN (in), 13 PAD (power)

## TPsmd
designator TP?
SPECIAL Test point (planar); Описание: ???; NumberSolderPointsSMD: 0; Аналог: нет; NumberSolderPointsTHT: 0
footprint TPsmd
pins: 1

## TPth
designator TP?
SPECIAL Test point (through hole); Описание: ???; NumberSolderPointsSMD: 0; Аналог: нет; NumberSolderPointsTHT: 0
footprint TPth
pins: 1

## TrimbleCopernicus(2)
designator A?
MODULE RADIO 12-channel GPS receiver; Описание: ???; NumberSolderPointsSMD: 0; Аналог: нет; NumberSolderPointsTHT: 0
footprint TrimbleCopernicus(2)
pins: 1 GND (power), 2 GND (power), 3 RF (in), 4 GND (power), 5 LNA (out), 6 Reserved (io), 7 Open (in), 8 Short (in), 9 Reserved (in), 10 Reserved (in), 11 Xreset (in), 12 VCC (power), 13 GND (power), 14 GND (power), 15 GND (power), 16 Standby (in), 17 Reserved (io), 18 Reserved (io), 19 1PPS (out), 20 RXD_B (in), 21 RXD_A (in), 22 Reserved (io), 23 TXD_A (out), 24 TXD_B (out), 25 Reserved (io), 26 Reserved (io), 27 GND (power), 28 GND (power)

## TRV
designator K?
RELAY spdt 1C 5..24V 16A-250VAC; Описание: ???; NumberSolderPointsSMD: 0; Аналог: нет; NumberSolderPointsTHT: 0
footprint TRV_TTI_RELAY
pins: 1, 2, 3, 4, 5

## TX2-L2-xV
designator K?
RELAY latching relay; Описание: ???; NumberSolderPointsSMD: 0; Аналог: нет; NumberSolderPointsTHT: 0
footprint TX2-L2-xV
pins: 1, 3, 4, 5, 6, 7, 8, 9, 10, 12

## U.FL-R-SMT
designator X?
CONNECTOR U.FL; Описание: ???; NumberSolderPointsSMD: 0; Аналог: нет; NumberSolderPointsTHT: 0
footprint U.FL-R-SMT
pins: 1, 2

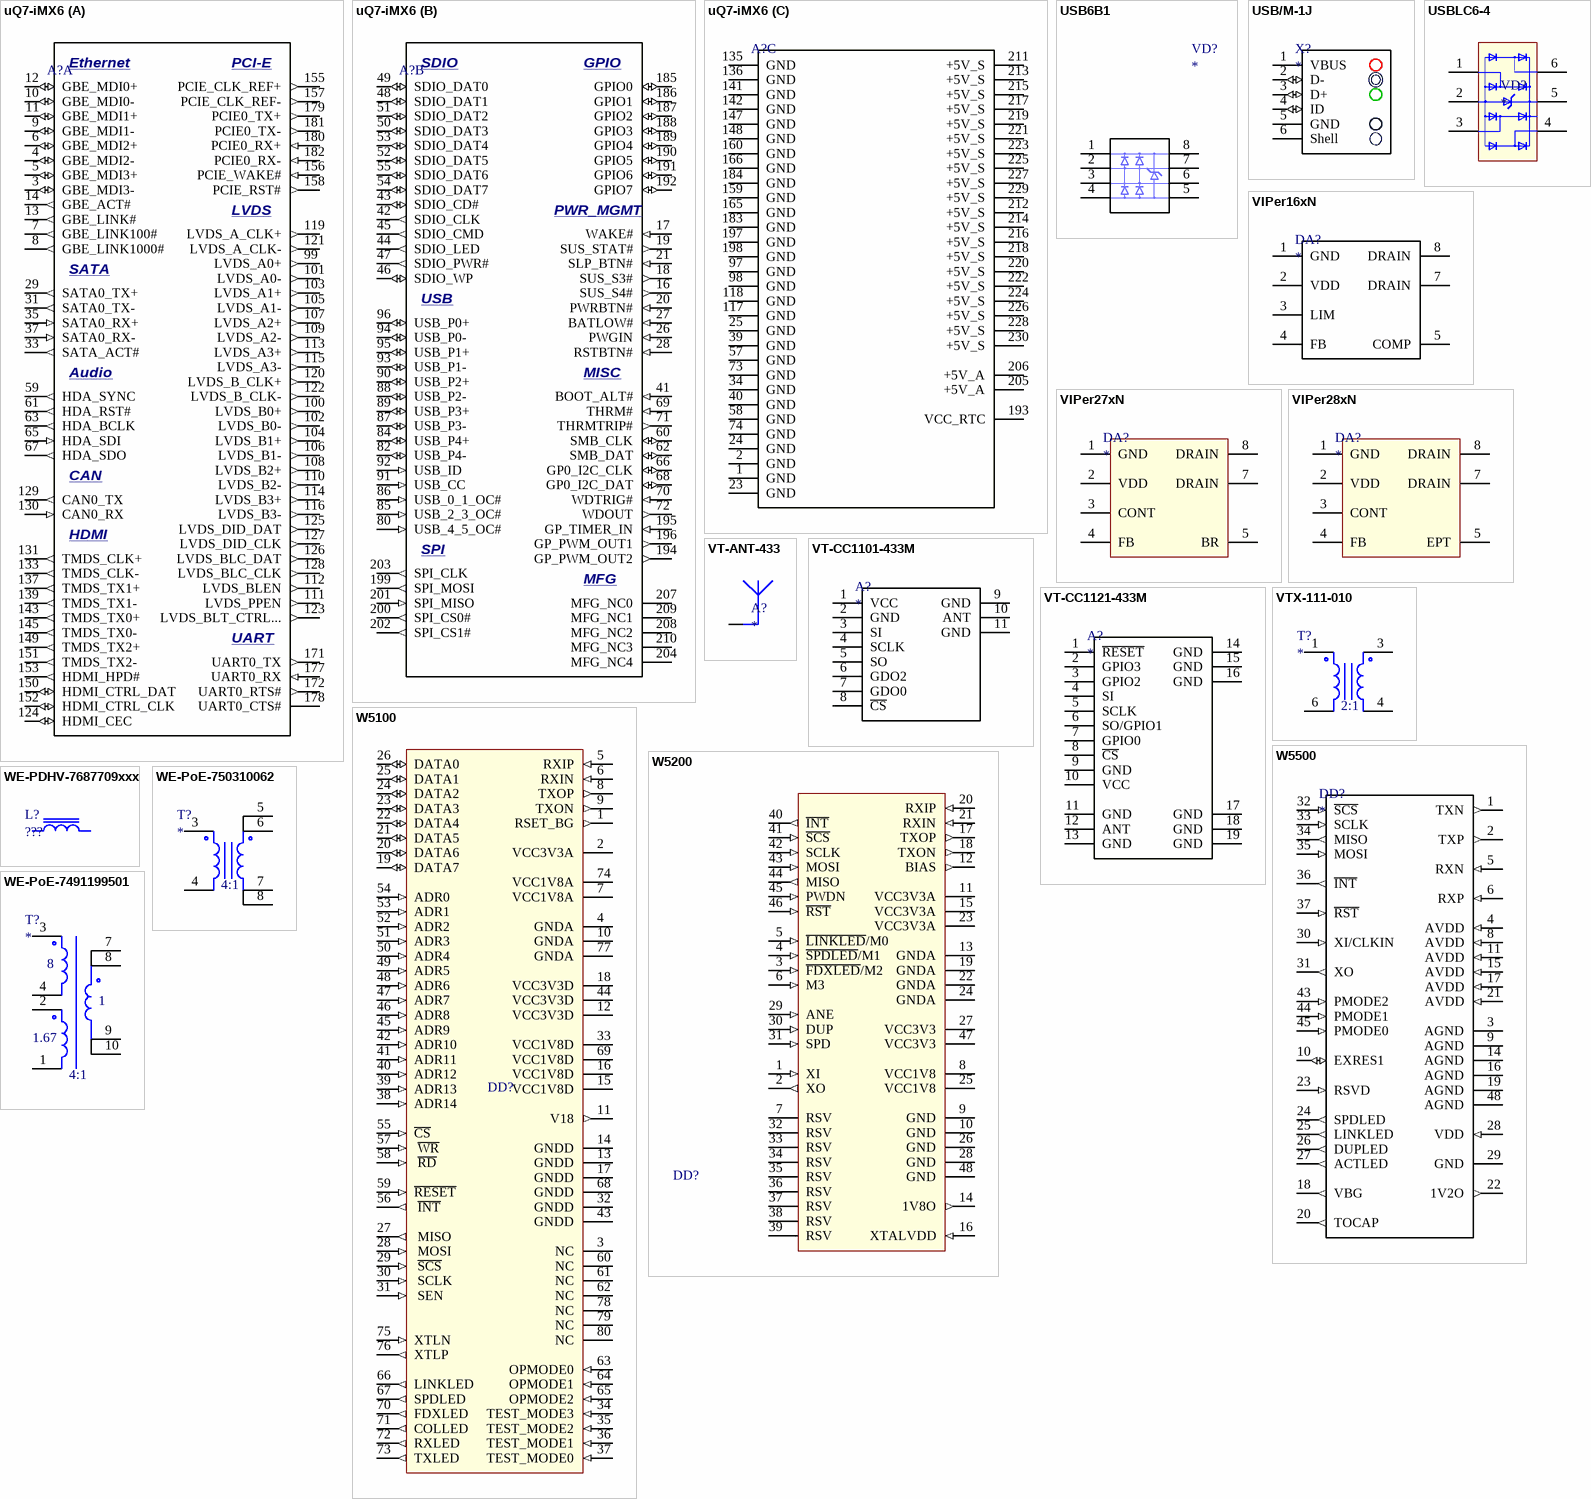
[diagram p24: symbols uQ7-iMX6 to WE-PoE-7491199501]

## uQ7-iMX6
designator A?  (value not drawn)
MODULE uQseven i.MX6 Seco; Аналог: нет; Описание: ???
footprint AS0B326-S78N
part A pins: 3 GBE_MDI3- (io), 4 GBE_MDI2- (io), 5 GBE_MDI3+ (io), 6 GBE_MDI2+ (io), 7 GBE_LINK100# (out), 8 GBE_LINK1000# (out), 9 GBE_MDI1- (io), 10 GBE_MDI0- (io), 11 GBE_MDI1+ (io), 12 GBE_MDI0+ (io), 13 GBE_LINK# (out), 14 GBE_ACT# (out), 29 SATA0_TX+ (out), 31 SATA0_TX- (out), 33 SATA_ACT# (out), 35 SATA0_RX+ (in), 37 SATA0_RX- (in), 59 HDA_SYNC (out), 61 HDA_RST# (out), 63 HDA_BCLK (out), 65 HDA_SDI (in), 67 HDA_SDO (out), 99 LVDS_A0+ (out), 100 LVDS_B0+ (out), 101 LVDS_A0- (out), 102 LVDS_B0- (out), 103 LVDS_A1+ (out), 104 LVDS_B1+ (out), 105 LVDS_A1- (out), 106 LVDS_B1- (out), 107 LVDS_A2+ (out), 108 LVDS_B2+ (out), 109 LVDS_A2- (out), 110 LVDS_B2- (out), 111 LVDS_PPEN (out), 112 LVDS_BLEN (out), 113 LVDS_A3+ (out), 114 LVDS_B3+ (out), 115 LVDS_A3- (out), 116 LVDS_B3- (out), 119 LVDS_A_CLK+ (out), 120 LVDS_B_CLK+ (out), 121 LVDS_A_CLK- (out), 122 LVDS_B_CLK- (out), 123 LVDS_BLT_CTRL... (out), 124 HDMI_CEC (io), 125 LVDS_DID_DAT (out), 126 LVDS_BLC_DAT (out), 127 LVDS_DID_CLK (out), 128 LVDS_BLC_CLK (out), 129 CAN0_TX (out), 130 CAN0_RX (in), 131 TMDS_CLK+ (out), 133 TMDS_CLK- (out), 137 TMDS_TX1+ (out), 139 TMDS_TX1- (out), 143 TMDS_TX0+ (out), 145 TMDS_TX0- (out), 149 TMDS_TX2+ (out), 150 HDMI_CTRL_DAT (io), 151 TMDS_TX2- (out), 152 HDMI_CTRL_CLK (io), 153 HDMI_HPD# (out), 155 PCIE_CLK_REF+ (out), 156 PCIE_WAKE# (in), 157 PCIE_CLK_REF- (out), 158 PCIE_RST# (out), 171 UART0_TX (out), 172 UART0_RTS# (out), 177 UART0_RX (in), 178 UART0_CTS#, 179 PCIE0_TX+ (out), 180 PCIE0_RX+ (in), 181 PCIE0_TX- (out), 182 PCIE0_RX- (in)
part B pins: 16 SUS_S4# (out), 17 WAKE# (in), 18 SUS_S3# (out), 19 SUS_STAT# (out), 20 PWRBTN# (in), 21 SLP_BTN# (in), 26 PWGIN (in), 27 BATLOW# (in), 28 RSTBTN# (in), 41 BOOT_ALT# (in), 42 SDIO_CLK (out), 43 SDIO_CD# (io), 44 SDIO_LED (out), 45 SDIO_CMD (out), 46 SDIO_WP (io), 47 SDIO_PWR# (out), 48 SDIO_DAT1 (io), 49 SDIO_DAT0 (io), 50 SDIO_DAT3 (io), 51 SDIO_DAT2 (io), 52 SDIO_DAT5 (io), 53 SDIO_DAT4 (io), 54 SDIO_DAT7 (io), 55 SDIO_DAT6 (io), 60 SMB_CLK (io), 62 SMB_DAT (io), 66 GP0_I2C_CLK (io), 68 GP0_I2C_DAT (io), 69 THRM# (in), 70 WDTRIG# (in), 71 THRMTRIP# (out), 72 WDOUT (out), 80 USB_4_5_OC# (in), 82 USB_P4- (io), 84 USB_P4+ (io), 85 USB_2_3_OC# (in), 86 USB_0_1_OC# (in), 87 USB_P3- (io), 88 USB_P2- (io), 89 USB_P3+ (io), 90 USB_P2+ (io), 91 USB_CC (in), 92 USB_ID (in), 93 USB_P1- (io), 94 USB_P0- (io), 95 USB_P1+ (io), 96 USB_P0+ (io), 185 GPIO0 (io), 186 GPIO1 (io), 187 GPIO2 (io), 188 GPIO3 (io), 189 GPIO4 (io), 190 GPIO5 (io), 191 GPIO6 (io), 192 GPIO7 (io), 194 GP_PWM_OUT2 (out), 195 GP_TIMER_IN (in), 196 GP_PWM_OUT1 (out), 199 SPI_MOSI (out), 200 SPI_CS0# (out), 201 SPI_MISO (in), 202 SPI_CS1# (out), 203 SPI_CLK (out), 204 MFG_NC4, 207 MFG_NC0, 208 MFG_NC2, 209 MFG_NC1, 210 MFG_NC3
part C pins: 1 GND, 2 GND, 23 GND, 24 GND, 25 GND, 34 GND, 39 GND, 40 GND, 57 GND, 58 GND, 73 GND, 74 GND, 97 GND, 98 GND, 117 GND, 118 GND, 135 GND, 136 GND, 141 GND, 142 GND, 147 GND, 148 GND, 159 GND, 160 GND, 165 GND, 166 GND, 183 GND, 184 GND, 193 VCC_RTC, 197 GND, 198 GND, 205 +5V_A, 206 +5V_A, 211 +5V_S, 212 +5V_S, 213 +5V_S, 214 +5V_S, 215 +5V_S, 216 +5V_S, 217 +5V_S, 218 +5V_S, 219 +5V_S, 220 +5V_S, 221 +5V_S, 222 +5V_S, 223 +5V_S, 224 +5V_S, 225 +5V_S, 226 +5V_S, 227 +5V_S, 228 +5V_S, 229 +5V_S, 230 +5V_S
part A text: Ethernet; PCI-E; LVDS; SATA; Audio; CAN; HDMI; UART
part B text: SDIO; GPIO; PWR_MGMT; USB; MISC; SPI; MFG

## USB6B1
designator VD?
DIODE TVS Data line protection; Описание: ???; NumberSolderPointsSMD: 0; Аналог: нет; NumberSolderPointsTHT: 0
footprint SO8
pins: 1, 2, 3, 4, 5, 6, 7, 8

## USB/M-1J
designator X?
CONNECTOR USB mini B; Описание: Разъем USB mini; NumberSolderPointsSMD: 0; Аналог: нет; NumberSolderPointsTHT: 0
footprint USB/M-1J
pins: 1 VBUS (power), 2 D- (io), 3 D+ (io), 4 ID (io), 5 GND, 6 Shell

## USBLC6-4
designator VD?
DIODE TVS Data line protection; Описание: ???; NumberSolderPointsSMD: 0; Аналог: нет; NumberSolderPointsTHT: 0
footprint SOT23-6
pins: 1, 2, 3, 4, 5, 6

## VIPer16xN
designator DA?
IC Off-line converter; Описание: Микросхема DIP7; NumberSolderPointsSMD: 0; Аналог: нет; NumberSolderPointsTHT: 0
footprint DIP7_VIPer16
pins: 1 GND, 2 VDD, 3 LIM, 4 FB, 5 COMP, 7 DRAIN, 8 DRAIN

## VIPer27xN
designator DA?
IC Off-line converter; Описание: ???; NumberSolderPointsSMD: 0; Аналог: нет; NumberSolderPointsTHT: 0
footprint DIP7_VIPer16
pins: 1 GND, 2 VDD, 3 CONT, 4 FB, 5 BR, 7 DRAIN, 8 DRAIN

## VIPer28xN
designator DA?
IC Off-line converter; Описание: ???; NumberSolderPointsSMD: 0; Аналог: нет; NumberSolderPointsTHT: 0
footprint DIP7_VIPer16
pins: 1 GND, 2 VDD, 3 CONT, 4 FB, 5 EPT, 7 DRAIN, 8 DRAIN

## VT-ANT-433
designator A?
ANTENNA 433MHz; Описание: Антенна; NumberSolderPointsSMD: 0; Аналог: нет; NumberSolderPointsTHT: 0
footprint VT-ANT-433
pins: 1

## VT-CC1101-433M
designator A?
MODULE RADIO; Аналог: нет; Описание: ???
footprint VT-CC1101-433M
pins: 1 VCC, 2 GND, 3 SI, 4 SCLK, 5 SO, 6 GDO2, 7 GDO0, 8 ~{CS}, 9 GND, 10 ANT, 11 GND

## VT-CC1121-433M
designator A?
MODULE RADIO; Аналог: нет; Описание: ???
footprint VT-CC1121-433M
pins: 1 ~{RESET}, 2 GPIO3, 3 GPIO2, 4 SI, 5 SCLK, 6 SO/GPIO1, 7 GPIO0, 8 ~{CS}, 9 GND, 10 VCC, 11 GND, 12 ANT, 13 GND, 14 GND, 15 GND, 16 GND, 17 GND, 18 GND, 19 GND

## VTX-111-010
designator T?
MAGNETIC Signal transformer 2:1; Описание: ???; NumberSolderPointsSMD: 0; Аналог: нет; NumberSolderPointsTHT: 0
footprint VTX-111-010
pins: 1, 3, 4, 6
text: 2:1

## W5100
designator DD?  (value not drawn)
IC 10/100 Ethernet controller with TCP/IP; Описание: ???; NumberSolderPointsSMD: 0; Аналог: нет; NumberSolderPointsTHT: 0
footprint LQFP80_W5100
pins: 1 RSET_BG (out), 2 VCC3V3A, 3 NC, 4 GNDA, 5 RXIP (in), 6  RXIN (in), 7 VCC1V8A, 8  TXOP (out), 9 TXON (out), 10 GNDA, 11 V18 (out), 12 VCC3V3D, 13 GNDD, 14 GNDD, 15 VCC1V8D, 16 VCC1V8D, 17 GNDD, 18 VCC3V3D, 19 DATA7 (io), 20 DATA6 (io), 21 DATA5 (io), 22 DATA4 (io), 23 DATA3 (io), 24 DATA2 (io), 25 DATA1 (io), 26 DATA0 (io), 27  MISO (out), 28  MOSI (in), 29  ~{SCS} (in), 30  SCLK (in), 31  SEN (in), 32 GNDD, 33 VCC1V8D, 34 TEST_MODE3 (in), 35 TEST_MODE2 (in), 36 TEST_MODE1 (in), 37 TEST_MODE0 (in), 38 ADR14 (in), 39 ADR13 (in), 40 ADR12 (in), 41 ADR11 (in), 42 ADR10 (in), 43 GNDD, 44 VCC3V3D, 45 ADR9 (in), 46 ADR8 (in), 47 ADR7 (in), 48 ADR6 (in), 49 ADR5 (in), 50 ADR4 (in), 51 ADR3 (in), 52 ADR2 (in), 53 ADR1 (in), 54 ADR0 (in), 55 ~{CS} (in), 56  ~{INT} (out), 57  ~{WR} (in), 58  ~{RD} (in), 59 ~{RESET} (in), 60 NC, 61 NC, 62 NC, 63 OPMODE0 (in), 64 OPMODE1 (in), 65 OPMODE2 (in), 66 LINKLED (out), 67 SPDLED (out), 68 GNDD, 69 VCC1V8D, 70 FDXLED (out), 71 COLLED (out), 72 RXLED (out), 73 TXLED (out), 74 VCC1V8A, 75 XTLN (in), 76 XTLP (out), 77 GNDA, 78 NC, 79 NC, 80 NC

## W5200
designator DD?  (value not drawn)
IC 10/100 Ethernet controller with TCP/IP; Описание: ???; NumberSolderPointsSMD: 0; Аналог: нет; NumberSolderPointsTHT: 0
footprint QFN48_W5200
pins: 1 XI (in), 2 XO (out), 3 ~{FDXLED}/M2 (in), 4 ~{SPDLED}/M1 (in), 5 ~{LINKLED}/M0 (in), 6 M3 (in), 7 RSV, 8 VCC1V8, 9 GND, 10 GND, 11 VCC3V3A, 12 BIAS (out), 13 GNDA, 14 1V8O (out), 15 VCC3V3A, 16 XTALVDD (in), 17 TXOP (out), 18 TXON (out), 19 GNDA, 20 RXIP (in), 21 RXIN (in), 22 GNDA, 23 VCC3V3A, 24 GNDA, 25 VCC1V8, 26 GND, 27 VCC3V3, 28 GND, 29 ANE (in), 30 DUP (in), 31 SPD (in), 32 RSV, 33 RSV, 34 RSV, 35 RSV, 36 RSV, 37 RSV, 38 RSV, 39 RSV, 40 ~{INT} (out), 41 ~{SCS} (in), 42 SCLK (in), 43 MOSI (in), 44 MISO (out), 45 PWDN (in), 46 ~{RST} (in), 47 VCC3V3, 48 GND

## W5500
designator DD?
IC 10/100 Ethernet controller with TCP/IP; Описание: Микросхема TQFP48; Аналог: нет
footprint TQFP48_W5500
pins: 1 TXN (out), 2 TXP (out), 3 AGND (power), 4 AVDD (in), 5 RXN (in), 6 RXP (in), 8 AVDD (in), 9 AGND (power), 10 EXRES1 (io), 11 AVDD (in), 14 AGND (power), 15 AVDD (in), 16 AGND (power), 17 AVDD (in), 18 VBG (out), 19 AGND (power), 20 TOCAP (out), 21 AVDD (in), 22 1V2O (out), 23 RSVD (in), 24 SPDLED (out), 25 LINKLED (out), 26 DUPLED (out), 27 ACTLED (out), 28 VDD (in), 29 GND (power), 30 XI/CLKIN (in), 31 XO (out), 32 ~{SCS} (in), 33 SCLK (in), 34 MISO (out), 35 MOSI (in), 36 ~{INT} (out), 37 ~{RST} (in), 43 PMODE2 (in), 44 PMODE1 (in), 45 PMODE0 (in), 48 AGND (power)

## WE-PDHV-7687709xxx
designator L?, comment ???
MAGNETIC Wurth Power Inductor SMD 12.8x12.8mm; Описание: Индуктивность 12.8x12.8мм; NumberSolderPointsSMD: 0; Аналог: нет; NumberSolderPointsTHT: 0
footprint WE-PDHV-7687709xxx
pins: 1, 2

## WE-PoE-750310062
designator T?
MAGNETIC Signal transformer 2:1; Описание: ???; NumberSolderPointsSMD: 0; Аналог: нет; NumberSolderPointsTHT: 0
footprint WE-PoE-750310062
pins: 3, 4, 5, 6, 7, 8
text: 4:1

## WE-PoE-7491199501
designator T?
MAGNETIC PoE transformer; Описание: ???; NumberSolderPointsSMD: 0; Аналог: нет; NumberSolderPointsTHT: 0
footprint WE-PoE-7491199501
pins: 1, 2, 3, 4, 7, 8, 9, 10
text: 1.67; 4:1

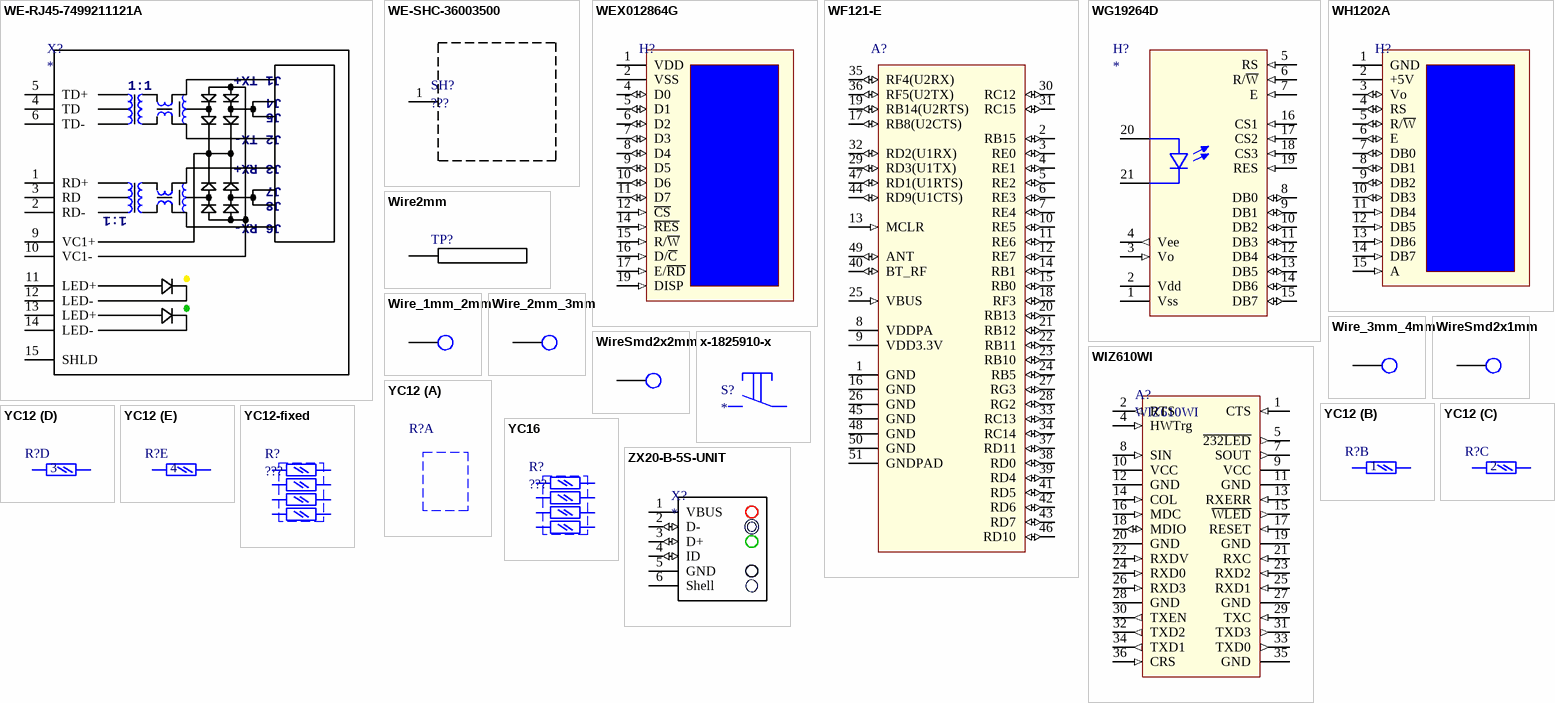
[diagram p25: symbols WE-RJ45-7499211121A to ZX20-B-5S-UNIT]

## WE-RJ45-7499211121A
designator X?
CONNECTOR RJ45; Описание: Разъем; NumberSolderPointsSMD: 0; Аналог: нет; NumberSolderPointsTHT: 0
footprint WE-RJ45-7499211121A
pins: 1 RD+, 2 RD-, 3 RD, 4 TD, 5 TD+, 6 TD-, 9 VC1+, 10 VC1-, 11 LED+, 12 LED-, 13 LED+, 14 LED-, 15 SHLD
text: J1 TX+; 1:1; J4; J5; J2 TX-; J3 RX+; J7; J8; J6 RX-

## WE-SHC-36003500
designator SH?, comment ???
SPECIAL Wurth WE-SHC-36003500 50x50x3mm; Описание: Экран помехозащитный; NumberSolderPointsSMD: 0; Аналог: нет; NumberSolderPointsTHT: 0
footprint WE-SHC-36003500
pins: 1 Shield

## WEX012864G
designator H?  (value not drawn)
DISPLAY Graphic 128x64 OLED Display; Описание: ???; NumberSolderPointsSMD: 0; Аналог: нет; NumberSolderPointsTHT: 0
footprint WEX012864G
pins: 1 VDD (power), 2 VSS (power), 4 D0 (io), 5 D1 (io), 6 D2 (io), 7 D3 (io), 8 D4 (io), 9 D5 (io), 10 D6 (io), 11 D7 (io), 12 ~{CS} (in), 14 ~{RES} (in), 15 R/~{W} (in), 16 D/~{C} (in), 17 E/~{RD} (in), 19 DISP (in)

## WF121-E
designator A?  (value not drawn)
MODULE RADIO Wi-Fi MODULE; Описание: ???; NumberSolderPointsSMD: 0; Аналог: нет; NumberSolderPointsTHT: 0
footprint WF121-E
pins: 1 GND (power), 2 RB15 (io), 3 RE0 (io), 4 RE1 (io), 5 RE2 (io), 6 RE3 (io), 7 RE4 (io), 8 VDDPA (power), 9 VDD3.3V (power), 10 RE5 (io), 11 RE6 (io), 12 RE7 (io), 13 MCLR (in), 14 RB1 (io), 15 RB0 (io), 16 GND (power), 17 RB8(U2CTS) (io), 18 RF3 (io), 19 RB14(U2RTS) (io), 20 RB13 (io), 21 RB12 (io), 22 RB11 (io), 23 RB10 (io), 24 RB5 (io), 25 VBUS (in), 26 GND (power), 27 RG3 (io), 28 RG2 (io), 29 RD3(U1TX) (io), 30 RC12 (io), 31 RC15 (io), 32 RD2(U1RX) (io), 33 RC13 (io), 34 RC14 (io), 35 RF4(U2RX) (io), 36 RF5(U2TX) (io), 37 RD11 (io), 38 RD0 (io), 39 RD4 (io), 40 BT_RF (io), 41 RD5 (io), 42 RD6 (io), 43 RD7 (io), 44 RD9(U1CTS) (io), 45 GND (power), 46 RD10 (io), 47 RD1(U1RTS) (io), 48 GND (power), 49 ANT (io), 50 GND (power), 51 GNDPAD (power)

## WG19264D
designator H?
DISPLAY Graphic 192x64 LCD display; Описание: ???; NumberSolderPointsSMD: 0; Аналог: нет; NumberSolderPointsTHT: 0
footprint WG19264D
pins: 1 Vss (power), 2 Vdd (power), 3 Vo (in), 4 Vee (out), 5 RS (in), 6 R/~{W} (in), 7 E (in), 8 DB0 (io), 9 DB1 (io), 10 DB2 (io), 11 DB3 (io), 12 DB4 (io), 13 DB5 (io), 14 DB6 (io), 15 DB7 (io), 16 CS1 (in), 17 CS2 (in), 18 CS3 (in), 19 RES (in), 20 A, 21 K

## WH1202A
designator H?  (value not drawn)
DISPLAY Symbolic 12x2; Описание: ???; NumberSolderPointsSMD: 0; Аналог: нет; NumberSolderPointsTHT: 0
footprint WH1202A
pins: 1 GND (power), 2 +5V (power), 3 Vo (io), 4 RS (io), 5 R/~{W} (io), 6 E (io), 7 DB0 (io), 8 DB1 (io), 9 DB2 (io), 10 DB3 (io), 11 DB4 (in), 12 DB5 (in), 13 DB6 (in), 14 DB7 (in), 15 A (in)

## Wire2mm
designator TP?  (value not drawn)
SPECIAL wire; Описание: ???; NumberSolderPointsSMD: 0; Аналог: нет; NumberSolderPointsTHT: 0
footprint Wire2mm
pins: 1

## Wire_1mm_2mm
designator W?  (value not drawn)
SPECIAL wire soldered to pcb; Описание: ???; NumberSolderPointsSMD: 0; Аналог: нет; NumberSolderPointsTHT: 0
footprint Wire_1mm_2mm
pins: 1

## Wire_2mm_3mm
designator W?  (value not drawn)
SPECIAL wire soldered to pcb; Описание: ???; NumberSolderPointsSMD: 0; Аналог: нет; NumberSolderPointsTHT: 0
footprint Wire_2mm_3mm
pins: 1

## Wire_3mm_4mm
designator W?  (value not drawn)
SPECIAL wire soldered to pcb; Описание: ???; NumberSolderPointsSMD: 0; Аналог: нет; NumberSolderPointsTHT: 0
footprint Wire_3mm_4mm
pins: 1

## WireSmd2x1mm
designator W?  (value not drawn)
SPECIAL wire soldered to pcb; Описание: ???; NumberSolderPointsSMD: 0; Аналог: нет; NumberSolderPointsTHT: 0
footprint WireSmd2x1mm
pins: 1

## WireSmd2x2mm
designator W?  (value not drawn)
SPECIAL wire soldered to pcb; Описание: ???; NumberSolderPointsSMD: 0; Аналог: нет; NumberSolderPointsTHT: 0
footprint WireSmd2x2mm
pins: 1

## WIZ610WI
designator A?
MODULE RADIO Wi-Fi; Описание: ???; NumberSolderPointsSMD: 0; Аналог: нет; NumberSolderPointsTHT: 0
footprint WIZ610WI
pins: 1 CTS (in), 2 RTS (out), 4 HWTrg (in), 5 ~{232LED} (out), 7 SOUT (out), 8 SIN (in), 9 VCC (power), 10 VCC (power), 11 GND (power), 12 GND (power), 13 RXERR (in), 14 COL (in), 15 ~{WLED} (out), 16 MDC (in), 17 RESET (in), 18 MDIO (io), 19 GND (power), 20 GND (power), 21 RXC (in), 22 RXDV (in), 23 RXD2 (in), 24 RXD0 (in), 25 RXD1 (in), 26 RXD3 (in), 27 GND (power), 28 GND (power), 29 TXC (in), 30 TXEN (out), 31 TXD3 (out), 32 TXD2 (out), 33 TXD0 (out), 34 TXD1 (out), 35 GND (power), 36 CRS (in)

## x-1825910-x
designator S?
SWITCH Button; Описание: ???; NumberSolderPointsSMD: 0; Аналог: нет; NumberSolderPointsTHT: 0
footprint x-1825910-x
pins: 1, 2

## YC12
designator R?, comment ???  (value not drawn)
RESISTOR Quad Resistor Array , 0.5mm pitch; NumberSolderPointsSMD: 0; Аналог: нет; Описание: ???; NumberSolderPointsTHT: 0
footprint YC12
part B pins: 1, 8
part C pins: 2, 7
part D pins: 3, 6
part E pins: 4, 5

## YC12-fixed
designator R?, comment ???
RESISTOR Quad Resistor Array 0.5mm pitch; NumberSolderPointsSMD: 0; Аналог: нет; Описание: ???; NumberSolderPointsTHT: 0
footprint YC12
pins: 1, 2, 3, 4, 5, 6, 7, 8

## YC16
designator R?, comment ???
RESISTOR Quad Resistor Array , 0.8mm pitch; NumberSolderPointsSMD: 0; Аналог: нет; Описание: ???; NumberSolderPointsTHT: 0
footprint YC16
pins: 1, 2, 3, 4, 5, 6, 7, 8

## ZX20-B-5S-UNIT
designator X?
CONNECTOR USB micro B; Описание: Разъем USB micro B; NumberSolderPointsSMD: 0; Аналог: нет; Комплект: ZX20-B-SLDC; NumberSolderPointsTHT: 0
footprint ZX20-B-5S-UNIT
pins: 1 VBUS (power), 2 D- (io), 3 D+ (io), 4 ID (io), 5 GND, 6 Shell